# Altium integrated library Infineon Microcontroller 32-bit TriCore AURIX.IntLib: 81 symbols (part 7 of 8)
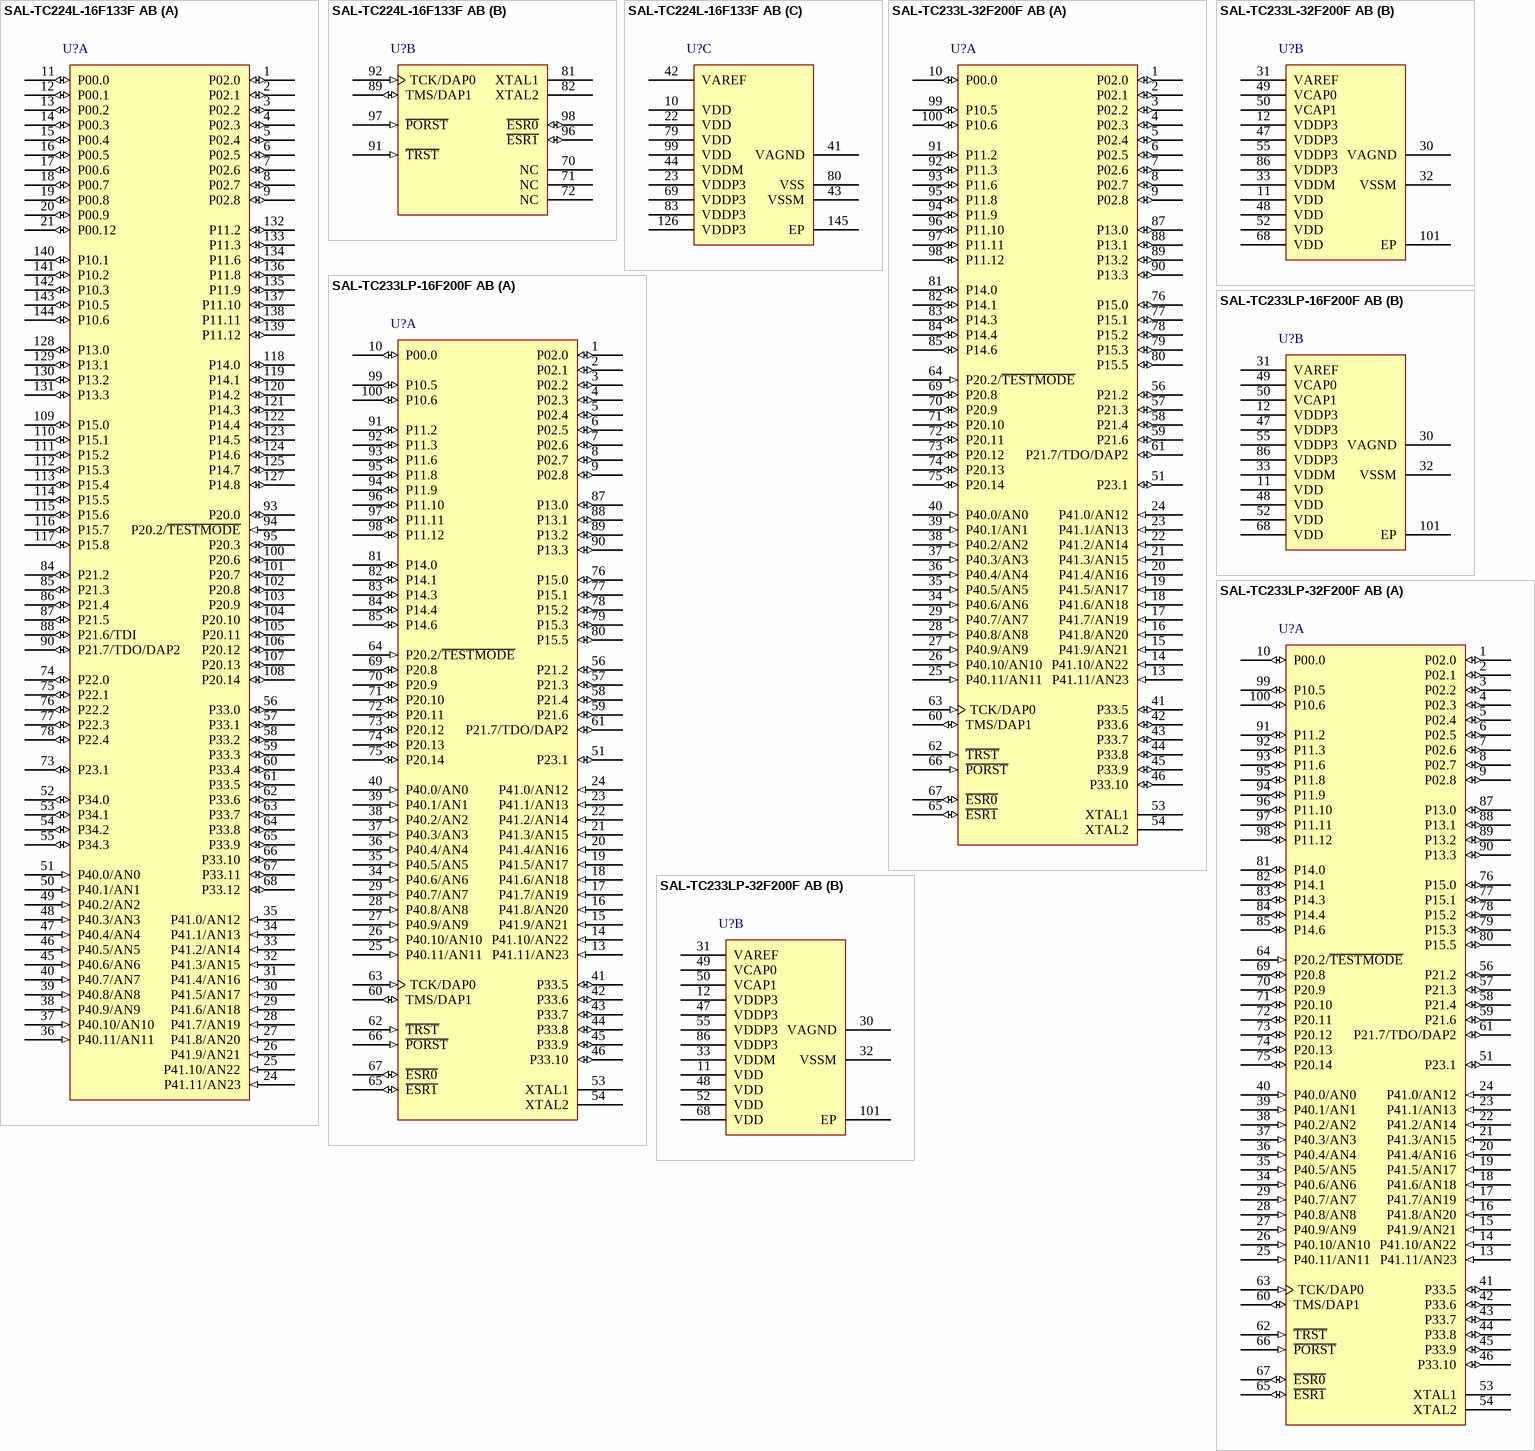
[diagram p41: symbols SAL-TC224L-16F133F AB to SAL-TC233LP-32F200F AB]

## SAL-TC233LP-16F200F AB
designator U?
32-bit multi-core TriCore AURIX microcontroller with 96 KB SRAM, 1 MB Flash, 200 MHz Frequency, -40 to 150 degC, PG-TQFP-100; Manufacturer: Infineon; ADC Chan.: 24; Core 0 TC16E DSPR (KB): 88; Core 0 TC16E PSPR (KB): 8; DFLASH (KB@cycles): 128@125k; ETH: No; Flash (MB): 1; FlexRay (#/ch.): 1 / 2; Freq. (MHz): 200; HSM: Yes; Total SRAM (KB): 96; Derivative: SAL-TC233LP-16F200F AB; DatasheetVersion: Rev. 1.1; PackageReference: PG-TQFP-100-23; PackageDescription: 100-Pin Plastic (Green) Low Profile Quad Flat Package, 12 x 12 mm Body, 0.4 mm Pitch; Supplier Part Reference: TC233LP16F200FABKXUMA1; Mounting Technology: Surface Mount; PartNumber: SAL-TC233LP-16F200F AB; ComponentLink1Description: Manufacturer URL; ComponentLink1URL: http://www.infineon.com/
footprint INF-PG-TQFP-100-23-5700X5700TP_V (QFP, 100-Leads, Body 12x12mm, Pitch 0.4mm, Thermal Pad 5.7x5.7mm)
part A pins: 1 P02.0 (io), 2 P02.1 (io), 3 P02.2 (io), 4 P02.3 (io), 5 P02.4 (io), 6 P02.5 (io), 7 P02.6 (io), 8 P02.7 (io), 9 P02.8 (io), 10 P00.0 (io), 13 P41.11/AN23 (in), 14 P41.10/AN22 (in), 15 P41.9/AN21 (in), 16 P41.8/AN20 (in), 17 P41.7/AN19 (in), 18 P41.6/AN18 (in), 19 P41.5/AN17 (in), 20 P41.4/AN16 (in), 21 P41.3/AN15 (in), 22 P41.2/AN14 (in), 23 P41.1/AN13 (in), 24 P41.0/AN12 (in), 25 P40.11/AN11 (in), 26 P40.10/AN10 (in), 27 P40.9/AN9 (in), 28 P40.8/AN8 (in), 29 P40.7/AN7 (in), 34 P40.6/AN6 (in), 35 P40.5/AN5 (in), 36 P40.4/AN4 (in), 37 P40.3/AN3 (in), 38 P40.2/AN2 (in), 39 P40.1/AN1 (in), 40 P40.0/AN0 (in), 41 P33.5 (io), 42 P33.6 (io), 43 P33.7 (io), 44 P33.8 (io), 45 P33.9 (io), 46 P33.10 (io), 51 P23.1 (io), 53 XTAL1, 54 XTAL2, 56 P21.2 (io), 57 P21.3 (io), 58 P21.4 (io), 59 P21.6 (io), 60 TMS/DAP1 (io), 61 P21.7/TDO/DAP2 (io), 62 ~{TRST} (in), 63 TCK/DAP0 (in), 64 P20.2/~{TESTMODE} (in), 65 ~{ESR1} (io), 66 ~{PORST} (in), 67 ~{ESR0} (io), 69 P20.8 (io), 70 P20.9 (io), 71 P20.10 (io), 72 P20.11 (io), 73 P20.12 (io), 74 P20.13 (io), 75 P20.14 (io), 76 P15.0 (io), 77 P15.1 (io), 78 P15.2 (io), 79 P15.3 (io), 80 P15.5 (io), 81 P14.0 (io), 82 P14.1 (io), 83 P14.3 (io), 84 P14.4 (io), 85 P14.6 (io), 87 P13.0 (io), 88 P13.1 (io), 89 P13.2 (io), 90 P13.3 (io), 91 P11.2 (io), 92 P11.3 (io), 93 P11.6 (io), 94 P11.9 (io), 95 P11.8 (io), 96 P11.10 (io), 97 P11.11 (io), 98 P11.12 (io), 99 P10.5 (io), 100 P10.6 (io)
part B pins: 11 VDD (power), 12 VDDP3 (power), 30 VAGND (power), 31 VAREF (power), 32 VSSM (power), 33 VDDM (power), 47 VDDP3 (power), 48 VDD (power), 49 VCAP0 (power), 50 VCAP1 (power), 52 VDD (power), 55 VDDP3 (power), 68 VDD (power), 86 VDDP3 (power), 101 EP (power)

## SAL-TC233LP-32F200F AB
designator U?
32-bit multi-core TriCore AURIX microcontroller with 192 KB SRAM, 2 MB Flash, 200 MHz Frequency, -40 to 150 degC, PG-TQFP-100; Manufacturer: Infineon; ADC Chan.: 24; Core 0 TC16E DSPR (KB): 184; Core 0 TC16E PSPR (KB): 8; DFLASH (KB@cycles): 128@125k; ETH: No; Flash (MB): 2; FlexRay (#/ch.): 1 / 2; Freq. (MHz): 200; HSM: Yes; Total SRAM (KB): 192; Derivative: SAL-TC233LP-32F200F AB; DatasheetVersion: Rev. 1.1; PackageReference: PG-TQFP-100-23; PackageDescription: 100-Pin Plastic (Green) Low Profile Quad Flat Package, 12 x 12 mm Body, 0.4 mm Pitch; Supplier 1: Mouser; Supplier Part Number 1: 726-TC233LP32F200FAB; Supplier Part Reference: TC233LP32F200FABKXUMA1; Mounting Technology: Surface Mount; PartNumber: SAL-TC233LP-32F200F AB; ComponentLink1Description: Manufacturer URL; ComponentLink1URL: http://www.infineon.com/
footprint INF-PG-TQFP-100-23-5700X5700TP_V (QFP, 100-Leads, Body 12x12mm, Pitch 0.4mm, Thermal Pad 5.7x5.7mm)
part A pins: 1 P02.0 (io), 2 P02.1 (io), 3 P02.2 (io), 4 P02.3 (io), 5 P02.4 (io), 6 P02.5 (io), 7 P02.6 (io), 8 P02.7 (io), 9 P02.8 (io), 10 P00.0 (io), 13 P41.11/AN23 (in), 14 P41.10/AN22 (in), 15 P41.9/AN21 (in), 16 P41.8/AN20 (in), 17 P41.7/AN19 (in), 18 P41.6/AN18 (in), 19 P41.5/AN17 (in), 20 P41.4/AN16 (in), 21 P41.3/AN15 (in), 22 P41.2/AN14 (in), 23 P41.1/AN13 (in), 24 P41.0/AN12 (in), 25 P40.11/AN11 (in), 26 P40.10/AN10 (in), 27 P40.9/AN9 (in), 28 P40.8/AN8 (in), 29 P40.7/AN7 (in), 34 P40.6/AN6 (in), 35 P40.5/AN5 (in), 36 P40.4/AN4 (in), 37 P40.3/AN3 (in), 38 P40.2/AN2 (in), 39 P40.1/AN1 (in), 40 P40.0/AN0 (in), 41 P33.5 (io), 42 P33.6 (io), 43 P33.7 (io), 44 P33.8 (io), 45 P33.9 (io), 46 P33.10 (io), 51 P23.1 (io), 53 XTAL1, 54 XTAL2, 56 P21.2 (io), 57 P21.3 (io), 58 P21.4 (io), 59 P21.6 (io), 60 TMS/DAP1 (io), 61 P21.7/TDO/DAP2 (io), 62 ~{TRST} (in), 63 TCK/DAP0 (in), 64 P20.2/~{TESTMODE} (in), 65 ~{ESR1} (io), 66 ~{PORST} (in), 67 ~{ESR0} (io), 69 P20.8 (io), 70 P20.9 (io), 71 P20.10 (io), 72 P20.11 (io), 73 P20.12 (io), 74 P20.13 (io), 75 P20.14 (io), 76 P15.0 (io), 77 P15.1 (io), 78 P15.2 (io), 79 P15.3 (io), 80 P15.5 (io), 81 P14.0 (io), 82 P14.1 (io), 83 P14.3 (io), 84 P14.4 (io), 85 P14.6 (io), 87 P13.0 (io), 88 P13.1 (io), 89 P13.2 (io), 90 P13.3 (io), 91 P11.2 (io), 92 P11.3 (io), 93 P11.6 (io), 94 P11.9 (io), 95 P11.8 (io), 96 P11.10 (io), 97 P11.11 (io), 98 P11.12 (io), 99 P10.5 (io), 100 P10.6 (io)
part B pins: 11 VDD (power), 12 VDDP3 (power), 30 VAGND (power), 31 VAREF (power), 32 VSSM (power), 33 VDDM (power), 47 VDDP3 (power), 48 VDD (power), 49 VCAP0 (power), 50 VCAP1 (power), 52 VDD (power), 55 VDDP3 (power), 68 VDD (power), 86 VDDP3 (power), 101 EP (power)

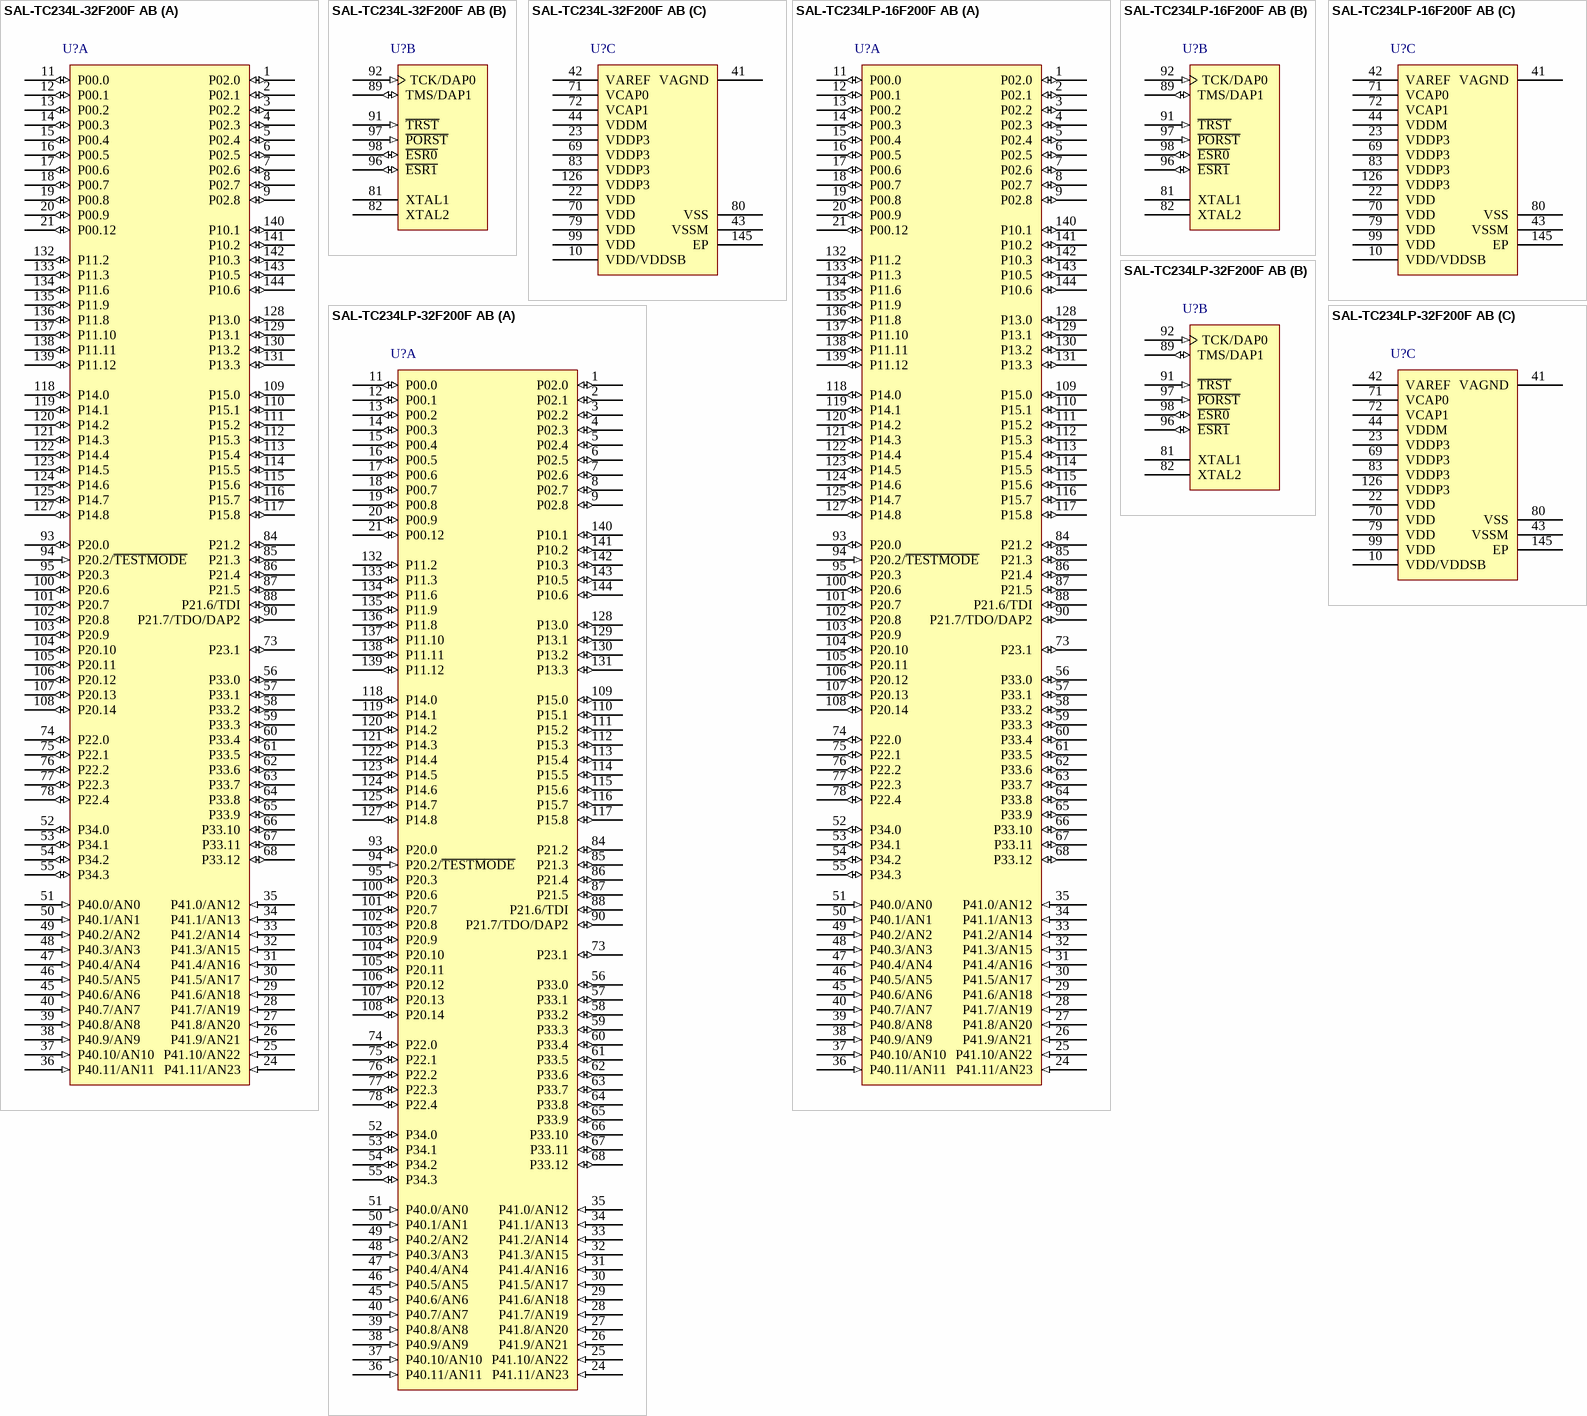
[diagram p28: symbols SAL-TC234L-32F200F AB to SAL-TC234LP-32F200F AB]

## SAL-TC234L-32F200F AB
designator U?
32-bit multi-core TriCore AURIX microcontroller with 192 KB SRAM, 2 MB Flash, 200 MHz Frequency, -40 to 150 degC, PG-TQFP-144; Manufacturer: Infineon; ADC Chan.: 24; Core 0 TC16E DSPR (KB): 184; Core 0 TC16E PSPR (KB): 8; DFLASH (KB@cycles): 128@125k; ETH: No; Flash (MB): 2; FlexRay (#/ch.): 1 / 2; Freq. (MHz): 200; Total SRAM (KB): 192; Derivative: SAL-TC234L-32F200F AB; DatasheetVersion: Rev. 1.1; PackageReference: PG-TQFP-144-27; PackageDescription: 144-Pin Plastic (Green) Low Profile Quad Flat Package, 16 x 16 mm Body, 0.4 mm Pitch; Supplier 1: Mouser; Supplier Part Number 1: 726-TC234L32F200FABK; HSM: No; Supplier Part Reference: TC234L32F200FABKXUMA1; Mounting Technology: Surface Mount; PartNumber: SAL-TC234L-32F200F AB; ComponentLink1Description: Manufacturer URL; ComponentLink1URL: http://www.infineon.com/
footprint INF-PG-TQFP-144-27-5700X5700TP_V (QFP, 144-Leads, Body 16x16mm, Pitch 0.4mm, Thermal Pad 5.7x5.7mm)
part A pins: 1 P02.0 (io), 2 P02.1 (io), 3 P02.2 (io), 4 P02.3 (io), 5 P02.4 (io), 6 P02.5 (io), 7 P02.6 (io), 8 P02.7 (io), 9 P02.8 (io), 11 P00.0 (io), 12 P00.1 (io), 13 P00.2 (io), 14 P00.3 (io), 15 P00.4 (io), 16 P00.5 (io), 17 P00.6 (io), 18 P00.7 (io), 19 P00.8 (io), 20 P00.9 (io), 21 P00.12 (io), 24 P41.11/AN23 (in), 25 P41.10/AN22 (in), 26 P41.9/AN21 (in), 27 P41.8/AN20 (in), 28 P41.7/AN19 (in), 29 P41.6/AN18 (in), 30 P41.5/AN17 (in), 31 P41.4/AN16 (in), 32 P41.3/AN15 (in), 33 P41.2/AN14 (in), 34 P41.1/AN13 (in), 35 P41.0/AN12 (in), 36 P40.11/AN11 (in), 37 P40.10/AN10 (in), 38 P40.9/AN9 (in), 39 P40.8/AN8 (in), 40 P40.7/AN7 (in), 45 P40.6/AN6 (in), 46 P40.5/AN5 (in), 47 P40.4/AN4 (in), 48 P40.3/AN3 (in), 49 P40.2/AN2 (in), 50 P40.1/AN1 (in), 51 P40.0/AN0 (in), 52 P34.0 (io), 53 P34.1 (io), 54 P34.2 (io), 55 P34.3 (io), 56 P33.0 (io), 57 P33.1 (io), 58 P33.2 (io), 59 P33.3 (io), 60 P33.4 (io), 61 P33.5 (io), 62 P33.6 (io), 63 P33.7 (io), 64 P33.8 (io), 65 P33.9 (io), 66 P33.10 (io), 67 P33.11 (io), 68 P33.12 (io), 73 P23.1 (io), 74 P22.0 (io), 75 P22.1 (io), 76 P22.2 (io), 77 P22.3 (io), 78 P22.4 (io), 84 P21.2 (io), 85 P21.3 (io), 86 P21.4 (io), 87 P21.5 (io), 88 P21.6/TDI (io), 90 P21.7/TDO/DAP2 (io), 93 P20.0 (io), 94 P20.2/~{TESTMODE} (in), 95 P20.3 (io), 100 P20.6 (io), 101 P20.7 (io), 102 P20.8 (io), 103 P20.9 (io), 104 P20.10 (io), 105 P20.11 (io), 106 P20.12 (io), 107 P20.13 (io), 108 P20.14 (io), 109 P15.0 (io), 110 P15.1 (io), 111 P15.2 (io), 112 P15.3 (io), 113 P15.4 (io), 114 P15.5 (io), 115 P15.6 (io), 116 P15.7 (io), 117 P15.8 (io), 118 P14.0 (io), 119 P14.1 (io), 120 P14.2 (io), 121 P14.3 (io), 122 P14.4 (io), 123 P14.5 (io), 124 P14.6 (io), 125 P14.7 (io), 127 P14.8 (io), 128 P13.0 (io), 129 P13.1 (io), 130 P13.2 (io), 131 P13.3 (io), 132 P11.2 (io), 133 P11.3 (io), 134 P11.6 (io), 135 P11.9 (io), 136 P11.8 (io), 137 P11.10 (io), 138 P11.11 (io), 139 P11.12 (io), 140 P10.1 (io), 141 P10.2 (io), 142 P10.3 (io), 143 P10.5 (io), 144 P10.6 (io)
part B pins: 81 XTAL1, 82 XTAL2, 89 TMS/DAP1 (io), 91 ~{TRST} (in), 92 TCK/DAP0 (in), 96 ~{ESR1} (io), 97 ~{PORST} (in), 98 ~{ESR0} (io)
part C pins: 10 VDD/VDDSB (power), 22 VDD (power), 23 VDDP3 (power), 41 VAGND (power), 42 VAREF (power), 43 VSSM (power), 44 VDDM (power), 69 VDDP3 (power), 70 VDD (power), 71 VCAP0 (power), 72 VCAP1 (power), 79 VDD (power), 80 VSS (power), 83 VDDP3 (power), 99 VDD (power), 126 VDDP3 (power), 145 EP (power)

## SAL-TC234LP-16F200F AB
designator U?
32-bit multi-core TriCore AURIX microcontroller with 96 KB SRAM, 1 MB Flash, 200 MHz Frequency, -40 to 150 degC, PG-TQFP-144; Manufacturer: Infineon; ADC Chan.: 24; Core 0 TC16E DSPR (KB): 88; Core 0 TC16E PSPR (KB): 8; DFLASH (KB@cycles): 128@125k; ETH: No; Flash (MB): 1; FlexRay (#/ch.): 1 / 2; Freq. (MHz): 200; HSM: Yes; Total SRAM (KB): 96; Derivative: SAL-TC234LP-16F200F AB; DatasheetVersion: Rev. 1.1; PackageReference: PG-TQFP-144-27; PackageDescription: 144-Pin Plastic (Green) Low Profile Quad Flat Package, 16 x 16 mm Body, 0.4 mm Pitch; Supplier Part Reference: TC234LP16F200FABKXUMA1; Mounting Technology: Surface Mount; PartNumber: SAL-TC234LP-16F200F AB; ComponentLink1Description: Manufacturer URL; ComponentLink1URL: http://www.infineon.com/
footprint INF-PG-TQFP-144-27-5700X5700TP_V (QFP, 144-Leads, Body 16x16mm, Pitch 0.4mm, Thermal Pad 5.7x5.7mm)
part A pins: 1 P02.0 (io), 2 P02.1 (io), 3 P02.2 (io), 4 P02.3 (io), 5 P02.4 (io), 6 P02.5 (io), 7 P02.6 (io), 8 P02.7 (io), 9 P02.8 (io), 11 P00.0 (io), 12 P00.1 (io), 13 P00.2 (io), 14 P00.3 (io), 15 P00.4 (io), 16 P00.5 (io), 17 P00.6 (io), 18 P00.7 (io), 19 P00.8 (io), 20 P00.9 (io), 21 P00.12 (io), 24 P41.11/AN23 (in), 25 P41.10/AN22 (in), 26 P41.9/AN21 (in), 27 P41.8/AN20 (in), 28 P41.7/AN19 (in), 29 P41.6/AN18 (in), 30 P41.5/AN17 (in), 31 P41.4/AN16 (in), 32 P41.3/AN15 (in), 33 P41.2/AN14 (in), 34 P41.1/AN13 (in), 35 P41.0/AN12 (in), 36 P40.11/AN11 (in), 37 P40.10/AN10 (in), 38 P40.9/AN9 (in), 39 P40.8/AN8 (in), 40 P40.7/AN7 (in), 45 P40.6/AN6 (in), 46 P40.5/AN5 (in), 47 P40.4/AN4 (in), 48 P40.3/AN3 (in), 49 P40.2/AN2 (in), 50 P40.1/AN1 (in), 51 P40.0/AN0 (in), 52 P34.0 (io), 53 P34.1 (io), 54 P34.2 (io), 55 P34.3 (io), 56 P33.0 (io), 57 P33.1 (io), 58 P33.2 (io), 59 P33.3 (io), 60 P33.4 (io), 61 P33.5 (io), 62 P33.6 (io), 63 P33.7 (io), 64 P33.8 (io), 65 P33.9 (io), 66 P33.10 (io), 67 P33.11 (io), 68 P33.12 (io), 73 P23.1 (io), 74 P22.0 (io), 75 P22.1 (io), 76 P22.2 (io), 77 P22.3 (io), 78 P22.4 (io), 84 P21.2 (io), 85 P21.3 (io), 86 P21.4 (io), 87 P21.5 (io), 88 P21.6/TDI (io), 90 P21.7/TDO/DAP2 (io), 93 P20.0 (io), 94 P20.2/~{TESTMODE} (in), 95 P20.3 (io), 100 P20.6 (io), 101 P20.7 (io), 102 P20.8 (io), 103 P20.9 (io), 104 P20.10 (io), 105 P20.11 (io), 106 P20.12 (io), 107 P20.13 (io), 108 P20.14 (io), 109 P15.0 (io), 110 P15.1 (io), 111 P15.2 (io), 112 P15.3 (io), 113 P15.4 (io), 114 P15.5 (io), 115 P15.6 (io), 116 P15.7 (io), 117 P15.8 (io), 118 P14.0 (io), 119 P14.1 (io), 120 P14.2 (io), 121 P14.3 (io), 122 P14.4 (io), 123 P14.5 (io), 124 P14.6 (io), 125 P14.7 (io), 127 P14.8 (io), 128 P13.0 (io), 129 P13.1 (io), 130 P13.2 (io), 131 P13.3 (io), 132 P11.2 (io), 133 P11.3 (io), 134 P11.6 (io), 135 P11.9 (io), 136 P11.8 (io), 137 P11.10 (io), 138 P11.11 (io), 139 P11.12 (io), 140 P10.1 (io), 141 P10.2 (io), 142 P10.3 (io), 143 P10.5 (io), 144 P10.6 (io)
part B pins: 81 XTAL1, 82 XTAL2, 89 TMS/DAP1 (io), 91 ~{TRST} (in), 92 TCK/DAP0 (in), 96 ~{ESR1} (io), 97 ~{PORST} (in), 98 ~{ESR0} (io)
part C pins: 10 VDD/VDDSB (power), 22 VDD (power), 23 VDDP3 (power), 41 VAGND (power), 42 VAREF (power), 43 VSSM (power), 44 VDDM (power), 69 VDDP3 (power), 70 VDD (power), 71 VCAP0 (power), 72 VCAP1 (power), 79 VDD (power), 80 VSS (power), 83 VDDP3 (power), 99 VDD (power), 126 VDDP3 (power), 145 EP (power)

## SAL-TC234LP-32F200F AB
designator U?
32-bit multi-core TriCore AURIX microcontroller with 192 KB SRAM, 2 MB Flash, 200 MHz Frequency, -40 to 150 degC, PG-TQFP-144; Manufacturer: Infineon; ADC Chan.: 24; Core 0 TC16E DSPR (KB): 184; Core 0 TC16E PSPR (KB): 8; DFLASH (KB@cycles): 128@125k; ETH: No; Flash (MB): 2; FlexRay (#/ch.): 1 / 2; Freq. (MHz): 200; HSM: Yes; Total SRAM (KB): 192; Derivative: SAL-TC234LP-32F200F AB; DatasheetVersion: Rev. 1.1; PackageReference: PG-TQFP-144-27; PackageDescription: 144-Pin Plastic (Green) Low Profile Quad Flat Package, 16 x 16 mm Body, 0.4 mm Pitch; Supplier 1: Mouser; Supplier Part Number 1: 726-TC234LP32F200FAB; Supplier Part Reference: TC234LP32F200FABKXUMA1; Mounting Technology: Surface Mount; PartNumber: SAL-TC234LP-32F200F AB; ComponentLink1Description: Manufacturer URL; ComponentLink1URL: http://www.infineon.com/
footprint INF-PG-TQFP-144-27-5700X5700TP_V (QFP, 144-Leads, Body 16x16mm, Pitch 0.4mm, Thermal Pad 5.7x5.7mm)
part A pins: 1 P02.0 (io), 2 P02.1 (io), 3 P02.2 (io), 4 P02.3 (io), 5 P02.4 (io), 6 P02.5 (io), 7 P02.6 (io), 8 P02.7 (io), 9 P02.8 (io), 11 P00.0 (io), 12 P00.1 (io), 13 P00.2 (io), 14 P00.3 (io), 15 P00.4 (io), 16 P00.5 (io), 17 P00.6 (io), 18 P00.7 (io), 19 P00.8 (io), 20 P00.9 (io), 21 P00.12 (io), 24 P41.11/AN23 (in), 25 P41.10/AN22 (in), 26 P41.9/AN21 (in), 27 P41.8/AN20 (in), 28 P41.7/AN19 (in), 29 P41.6/AN18 (in), 30 P41.5/AN17 (in), 31 P41.4/AN16 (in), 32 P41.3/AN15 (in), 33 P41.2/AN14 (in), 34 P41.1/AN13 (in), 35 P41.0/AN12 (in), 36 P40.11/AN11 (in), 37 P40.10/AN10 (in), 38 P40.9/AN9 (in), 39 P40.8/AN8 (in), 40 P40.7/AN7 (in), 45 P40.6/AN6 (in), 46 P40.5/AN5 (in), 47 P40.4/AN4 (in), 48 P40.3/AN3 (in), 49 P40.2/AN2 (in), 50 P40.1/AN1 (in), 51 P40.0/AN0 (in), 52 P34.0 (io), 53 P34.1 (io), 54 P34.2 (io), 55 P34.3 (io), 56 P33.0 (io), 57 P33.1 (io), 58 P33.2 (io), 59 P33.3 (io), 60 P33.4 (io), 61 P33.5 (io), 62 P33.6 (io), 63 P33.7 (io), 64 P33.8 (io), 65 P33.9 (io), 66 P33.10 (io), 67 P33.11 (io), 68 P33.12 (io), 73 P23.1 (io), 74 P22.0 (io), 75 P22.1 (io), 76 P22.2 (io), 77 P22.3 (io), 78 P22.4 (io), 84 P21.2 (io), 85 P21.3 (io), 86 P21.4 (io), 87 P21.5 (io), 88 P21.6/TDI (io), 90 P21.7/TDO/DAP2 (io), 93 P20.0 (io), 94 P20.2/~{TESTMODE} (in), 95 P20.3 (io), 100 P20.6 (io), 101 P20.7 (io), 102 P20.8 (io), 103 P20.9 (io), 104 P20.10 (io), 105 P20.11 (io), 106 P20.12 (io), 107 P20.13 (io), 108 P20.14 (io), 109 P15.0 (io), 110 P15.1 (io), 111 P15.2 (io), 112 P15.3 (io), 113 P15.4 (io), 114 P15.5 (io), 115 P15.6 (io), 116 P15.7 (io), 117 P15.8 (io), 118 P14.0 (io), 119 P14.1 (io), 120 P14.2 (io), 121 P14.3 (io), 122 P14.4 (io), 123 P14.5 (io), 124 P14.6 (io), 125 P14.7 (io), 127 P14.8 (io), 128 P13.0 (io), 129 P13.1 (io), 130 P13.2 (io), 131 P13.3 (io), 132 P11.2 (io), 133 P11.3 (io), 134 P11.6 (io), 135 P11.9 (io), 136 P11.8 (io), 137 P11.10 (io), 138 P11.11 (io), 139 P11.12 (io), 140 P10.1 (io), 141 P10.2 (io), 142 P10.3 (io), 143 P10.5 (io), 144 P10.6 (io)
part B pins: 81 XTAL1, 82 XTAL2, 89 TMS/DAP1 (io), 91 ~{TRST} (in), 92 TCK/DAP0 (in), 96 ~{ESR1} (io), 97 ~{PORST} (in), 98 ~{ESR0} (io)
part C pins: 10 VDD/VDDSB (power), 22 VDD (power), 23 VDDP3 (power), 41 VAGND (power), 42 VAREF (power), 43 VSSM (power), 44 VDDM (power), 69 VDDP3 (power), 70 VDD (power), 71 VCAP0 (power), 72 VCAP1 (power), 79 VDD (power), 80 VSS (power), 83 VDDP3 (power), 99 VDD (power), 126 VDDP3 (power), 145 EP (power)

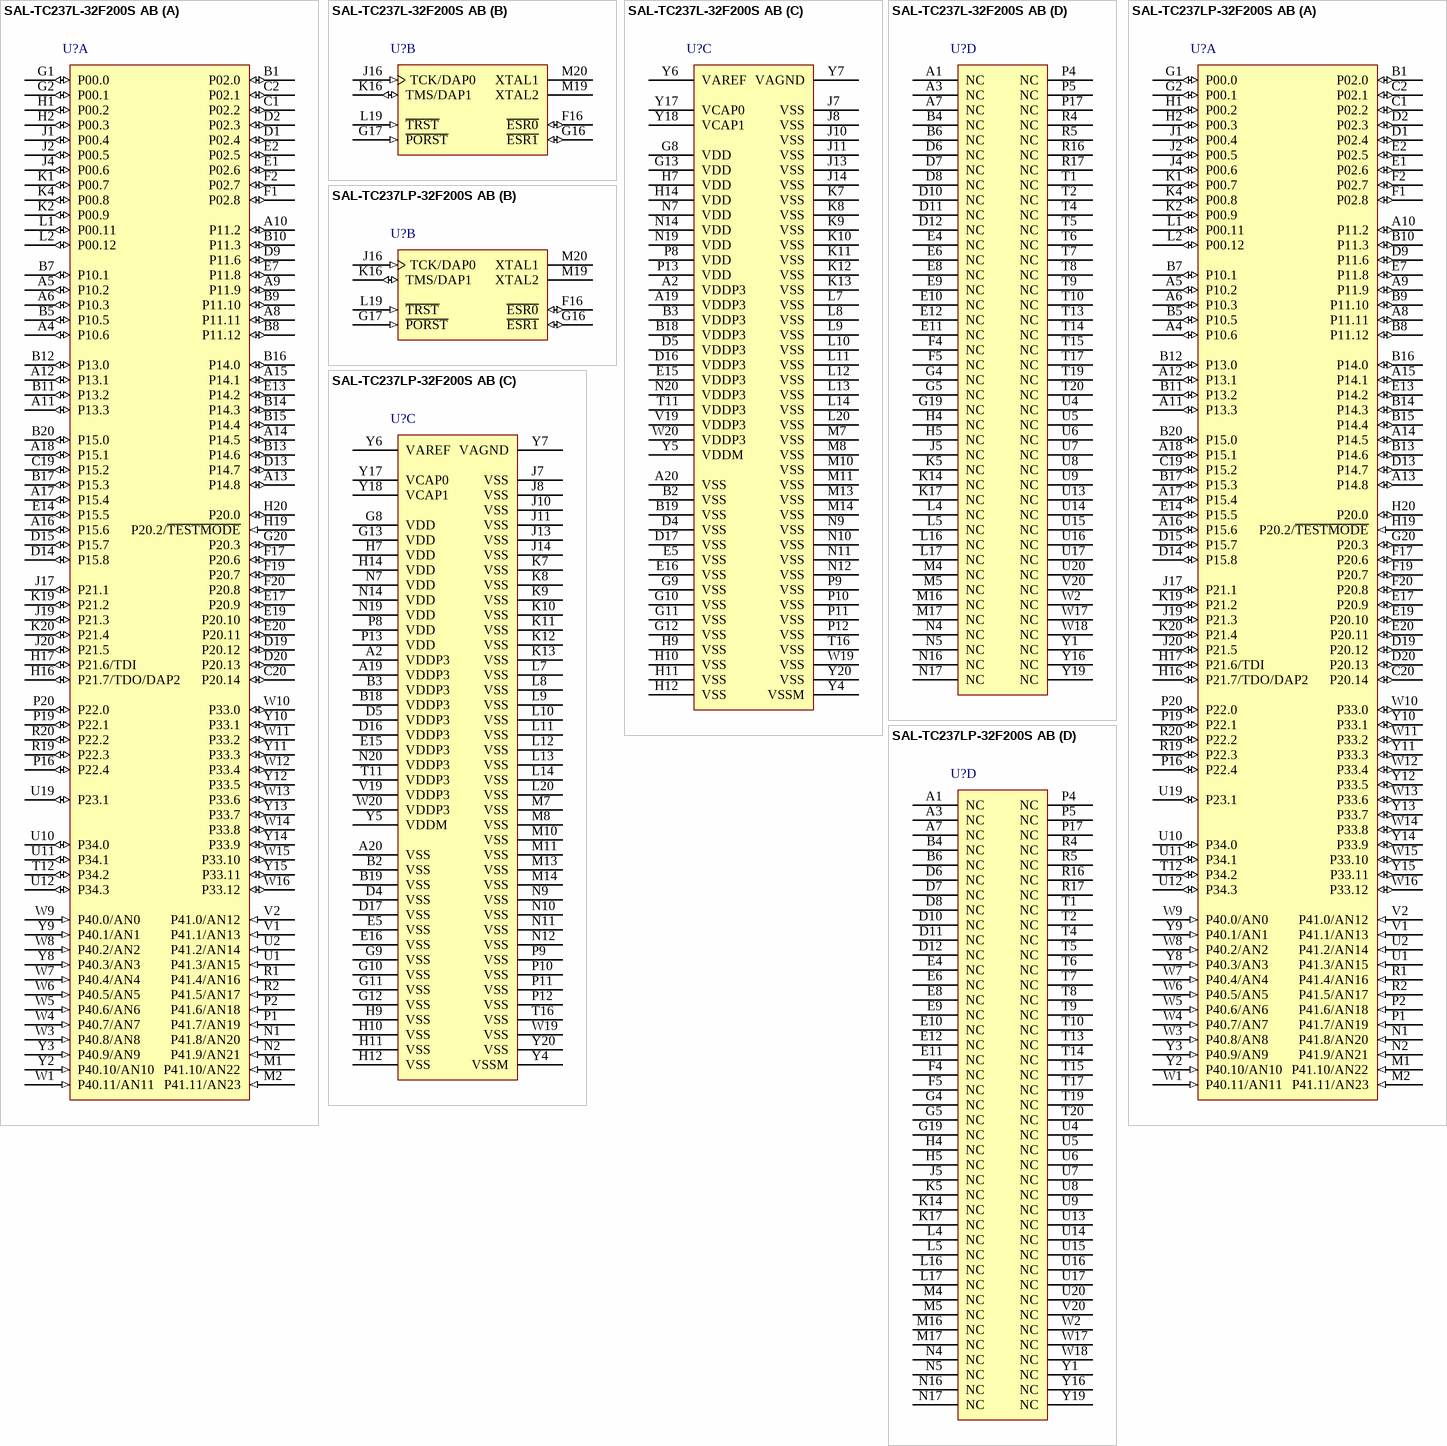
[diagram p29: symbols SAL-TC237L-32F200S AB to SAL-TC237LP-32F200S AB]

## SAL-TC237L-32F200S AB
designator U?
32-bit multi-core TriCore AURIX microcontroller with 192 KB SRAM, 2 MB Flash, 200 MHz Frequency, -40 to 150 degC, PG-LFBGA-292; Manufacturer: Infineon; ADC Chan.: 24; Core 0 TC16E DSPR (KB): 184; Core 0 TC16E PSPR (KB): 8; DFLASH (KB@cycles): 128@125k; ETH: No; Flash (MB): 2; FlexRay (#/ch.): 1 / 2; Freq. (MHz): 200; Total SRAM (KB): 192; Derivative: SAL-TC237L-32F200S AB; DatasheetVersion: Rev. 1.1; PackageReference: PG-LFBGA-292-6; PackageDescription: 292-Pin Plastic (Green) Low Profile Fine Pitch Ball Grid Array Package, 17 x 17 mm Body, 0.8 mm Pitch; Supplier 1: Mouser; Supplier Part Number 1: 726-TC237L32F200SABK; HSM: No; Supplier Part Reference: TC237L32F200SABKXUMA1; Mounting Technology: Surface Mount; PartNumber: SAL-TC237L-32F200S AB; ComponentLink1Description: Manufacturer URL; ComponentLink1URL: http://www.infineon.com/
footprint INF-PG-LFBGA-292-6 (BGA, 292-Balls, Body 17x17mm, Pitch 0.8mm)
part A pins: A4 P10.6 (io), A5 P10.2 (io), A6 P10.3 (io), A8 P11.11 (io), A9 P11.9 (io), A10 P11.2 (io), A11 P13.3 (io), A12 P13.1 (io), A13 P14.8 (io), A14 P14.5 (io), A15 P14.1 (io), A16 P15.6 (io), A17 P15.4 (io), A18 P15.1 (io), B1 P02.0 (io), B5 P10.5 (io), B7 P10.1 (io), B8 P11.12 (io), B9 P11.10 (io), B10 P11.3 (io), B11 P13.2 (io), B12 P13.0 (io), B13 P14.6 (io), B14 P14.3 (io), B15 P14.4 (io), B16 P14.0 (io), B17 P15.3 (io), B20 P15.0 (io), C1 P02.2 (io), C2 P02.1 (io), C19 P15.2 (io), C20 P20.14 (io), D1 P02.4 (io), D2 P02.3 (io), D9 P11.6 (io), D13 P14.7 (io), D14 P15.8 (io), D15 P15.7 (io), D19 P20.12 (io), D20 P20.13 (io), E1 P02.6 (io), E2 P02.5 (io), E7 P11.8 (io), E13 P14.2 (io), E14 P15.5 (io), E17 P20.9 (io), E19 P20.10 (io), E20 P20.11 (io), F1 P02.8 (io), F2 P02.7 (io), F17 P20.6 (io), F19 P20.7 (io), F20 P20.8 (io), G1 P00.0 (io), G2 P00.1 (io), G20 P20.3 (io), H1 P00.2 (io), H2 P00.3 (io), H16 P21.7/TDO/DAP2 (io), H17 P21.6/TDI (io), H19 P20.2/~{TESTMODE} (in), H20 P20.0 (io), J1 P00.4 (io), J2 P00.5 (io), J4 P00.6 (io), J17 P21.1 (io), J19 P21.3 (io), J20 P21.5 (io), K1 P00.7 (io), K2 P00.9 (io), K4 P00.8 (io), K19 P21.2 (io), K20 P21.4 (io), L1 P00.11 (io), L2 P00.12 (io), M1 P41.10/AN22 (in), M2 P41.11/AN23 (in), N1 P41.8/AN20 (in), N2 P41.9/AN21 (in), P1 P41.7/AN19 (in), P2 P41.6/AN18 (in), P16 P22.4 (io), P19 P22.1 (io), P20 P22.0 (io), R1 P41.4/AN16 (in), R2 P41.5/AN17 (in), R19 P22.3 (io), R20 P22.2 (io), T12 P34.2 (io), U1 P41.3/AN15 (in), U2 P41.2/AN14 (in), U10 P34.0 (io), U11 P34.1 (io), U12 P34.3 (io), U19 P23.1 (io), V1 P41.1/AN13 (in), V2 P41.0/AN12 (in), W1 P40.11/AN11 (in), W3 P40.8/AN8 (in), W4 P40.7/AN7 (in), W5 P40.6/AN6 (in), W6 P40.5/AN5 (in), W7 P40.4/AN4 (in), W8 P40.2/AN2 (in), W9 P40.0/AN0 (in), W10 P33.0 (io), W11 P33.2 (io), W12 P33.4 (io), W13 P33.6 (io), W14 P33.8 (io), W15 P33.10 (io), W16 P33.12 (io), Y2 P40.10/AN10 (in), Y3 P40.9/AN9 (in), Y8 P40.3/AN3 (in), Y9 P40.1/AN1 (in), Y10 P33.1 (io), Y11 P33.3 (io), Y12 P33.5 (io), Y13 P33.7 (io), Y14 P33.9 (io), Y15 P33.11 (io)
part B pins: F16 ~{ESR0} (io), G16 ~{ESR1} (io), G17 ~{PORST} (in), J16 TCK/DAP0 (in), K16 TMS/DAP1 (io), L19 ~{TRST} (in), M19 XTAL2, M20 XTAL1
part C pins: A2 VDDP3 (power), A19 VDDP3 (power), A20 VSS (power), B2 VSS (power), B3 VDDP3 (power), B18 VDDP3 (power), B19 VSS (power), D4 VSS (power), D5 VDDP3 (power), D16 VDDP3 (power), D17 VSS (power), E5 VSS (power), E15 VDDP3 (power), E16 VSS (power), G8 VDD (power), G9 VSS (power), G10 VSS (power), G11 VSS (power), G12 VSS (power), G13 VDD (power), H7 VDD (power), H9 VSS (power), H10 VSS (power), H11 VSS (power), H12 VSS (power), H14 VDD (power), J7 VSS (power), J8 VSS (power), J10 VSS (power), J11 VSS (power), J13 VSS (power), J14 VSS (power), K7 VSS (power), K8 VSS (power), K9 VSS (power), K10 VSS (power), K11 VSS (power), K12 VSS (power), K13 VSS (power), L7 VSS (power), L8 VSS (power), L9 VSS (power), L10 VSS (power), L11 VSS (power), L12 VSS (power), L13 VSS (power), L14 VSS (power), L20 VSS (power), M7 VSS (power), M8 VSS (power), M10 VSS (power), M11 VSS (power), M13 VSS (power), M14 VSS (power), N7 VDD (power), N9 VSS (power), N10 VSS (power), N11 VSS (power), N12 VSS (power), N14 VDD (power), N19 VDD (power), N20 VDDP3 (power), P8 VDD (power), P9 VSS (power), P10 VSS (power), P11 VSS (power), P12 VSS (power), P13 VDD (power), T11 VDDP3 (power), T16 VSS (power), V19 VDDP3 (power), W19 VSS (power), W20 VDDP3 (power), Y4 VSSM (power), Y5 VDDM (power), Y6 VAREF (power), Y7 VAGND (power), Y17 VCAP0 (power), Y18 VCAP1 (power), Y20 VSS (power)
part D pins: A1 NC, A3 NC, A7 NC, B4 NC, B6 NC, D6 NC, D7 NC, D8 NC, D10 NC, D11 NC, D12 NC, E4 NC, E6 NC, E8 NC, E9 NC, E10 NC, E11 NC, E12 NC, F4 NC, F5 NC, G4 NC, G5 NC, G19 NC, H4 NC, H5 NC, J5 NC, K5 NC, K14 NC, K17 NC, L4 NC, L5 NC, L16 NC, L17 NC, M4 NC, M5 NC, M16 NC, M17 NC, N4 NC, N5 NC, N16 NC, N17 NC, P4 NC, P5 NC, P17 NC, R4 NC, R5 NC, R16 NC, R17 NC, T1 NC, T2 NC, T4 NC, T5 NC, T6 NC, T7 NC, T8 NC, T9 NC, T10 NC, T13 NC, T14 NC, T15 NC, T17 NC, T19 NC, T20 NC, U4 NC, U5 NC, U6 NC, U7 NC, U8 NC, U9 NC, U13 NC, U14 NC, U15 NC, U16 NC, U17 NC, U20 NC, V20 NC, W2 NC, W17 NC, W18 NC, Y1 NC, Y16 NC, Y19 NC

## SAL-TC237LP-32F200S AB
designator U?
32-bit multi-core TriCore AURIX microcontroller with 192 KB SRAM, 2 MB Flash, 200 MHz Frequency, -40 to 150 degC, PG-LFBGA-292; Manufacturer: Infineon; ADC Chan.: 24; Core 0 TC16E DSPR (KB): 184; Core 0 TC16E PSPR (KB): 8; DFLASH (KB@cycles): 128@125k; ETH: No; Flash (MB): 2; FlexRay (#/ch.): 1 / 2; Freq. (MHz): 200; HSM: Yes; Total SRAM (KB): 192; Derivative: SAL-TC237LP-32F200S AB; DatasheetVersion: Rev. 1.1; PackageReference: PG-LFBGA-292-6; PackageDescription: 292-Pin Plastic (Green) Low Profile Fine Pitch Ball Grid Array Package, 17 x 17 mm Body, 0.8 mm Pitch; Supplier 1: Mouser; Supplier Part Number 1: 726-TC237LP32F200SAB; Supplier Part Reference: TC237LP32F200SABKXUMA1; Mounting Technology: Surface Mount; PartNumber: SAL-TC237LP-32F200S AB; ComponentLink1Description: Manufacturer URL; ComponentLink1URL: http://www.infineon.com/
footprint INF-PG-LFBGA-292-6 (BGA, 292-Balls, Body 17x17mm, Pitch 0.8mm)
part A pins: A4 P10.6 (io), A5 P10.2 (io), A6 P10.3 (io), A8 P11.11 (io), A9 P11.9 (io), A10 P11.2 (io), A11 P13.3 (io), A12 P13.1 (io), A13 P14.8 (io), A14 P14.5 (io), A15 P14.1 (io), A16 P15.6 (io), A17 P15.4 (io), A18 P15.1 (io), B1 P02.0 (io), B5 P10.5 (io), B7 P10.1 (io), B8 P11.12 (io), B9 P11.10 (io), B10 P11.3 (io), B11 P13.2 (io), B12 P13.0 (io), B13 P14.6 (io), B14 P14.3 (io), B15 P14.4 (io), B16 P14.0 (io), B17 P15.3 (io), B20 P15.0 (io), C1 P02.2 (io), C2 P02.1 (io), C19 P15.2 (io), C20 P20.14 (io), D1 P02.4 (io), D2 P02.3 (io), D9 P11.6 (io), D13 P14.7 (io), D14 P15.8 (io), D15 P15.7 (io), D19 P20.12 (io), D20 P20.13 (io), E1 P02.6 (io), E2 P02.5 (io), E7 P11.8 (io), E13 P14.2 (io), E14 P15.5 (io), E17 P20.9 (io), E19 P20.10 (io), E20 P20.11 (io), F1 P02.8 (io), F2 P02.7 (io), F17 P20.6 (io), F19 P20.7 (io), F20 P20.8 (io), G1 P00.0 (io), G2 P00.1 (io), G20 P20.3 (io), H1 P00.2 (io), H2 P00.3 (io), H16 P21.7/TDO/DAP2 (io), H17 P21.6/TDI (io), H19 P20.2/~{TESTMODE} (in), H20 P20.0 (io), J1 P00.4 (io), J2 P00.5 (io), J4 P00.6 (io), J17 P21.1 (io), J19 P21.3 (io), J20 P21.5 (io), K1 P00.7 (io), K2 P00.9 (io), K4 P00.8 (io), K19 P21.2 (io), K20 P21.4 (io), L1 P00.11 (io), L2 P00.12 (io), M1 P41.10/AN22 (in), M2 P41.11/AN23 (in), N1 P41.8/AN20 (in), N2 P41.9/AN21 (in), P1 P41.7/AN19 (in), P2 P41.6/AN18 (in), P16 P22.4 (io), P19 P22.1 (io), P20 P22.0 (io), R1 P41.4/AN16 (in), R2 P41.5/AN17 (in), R19 P22.3 (io), R20 P22.2 (io), T12 P34.2 (io), U1 P41.3/AN15 (in), U2 P41.2/AN14 (in), U10 P34.0 (io), U11 P34.1 (io), U12 P34.3 (io), U19 P23.1 (io), V1 P41.1/AN13 (in), V2 P41.0/AN12 (in), W1 P40.11/AN11 (in), W3 P40.8/AN8 (in), W4 P40.7/AN7 (in), W5 P40.6/AN6 (in), W6 P40.5/AN5 (in), W7 P40.4/AN4 (in), W8 P40.2/AN2 (in), W9 P40.0/AN0 (in), W10 P33.0 (io), W11 P33.2 (io), W12 P33.4 (io), W13 P33.6 (io), W14 P33.8 (io), W15 P33.10 (io), W16 P33.12 (io), Y2 P40.10/AN10 (in), Y3 P40.9/AN9 (in), Y8 P40.3/AN3 (in), Y9 P40.1/AN1 (in), Y10 P33.1 (io), Y11 P33.3 (io), Y12 P33.5 (io), Y13 P33.7 (io), Y14 P33.9 (io), Y15 P33.11 (io)
part B pins: F16 ~{ESR0} (io), G16 ~{ESR1} (io), G17 ~{PORST} (in), J16 TCK/DAP0 (in), K16 TMS/DAP1 (io), L19 ~{TRST} (in), M19 XTAL2, M20 XTAL1
part C pins: A2 VDDP3 (power), A19 VDDP3 (power), A20 VSS (power), B2 VSS (power), B3 VDDP3 (power), B18 VDDP3 (power), B19 VSS (power), D4 VSS (power), D5 VDDP3 (power), D16 VDDP3 (power), D17 VSS (power), E5 VSS (power), E15 VDDP3 (power), E16 VSS (power), G8 VDD (power), G9 VSS (power), G10 VSS (power), G11 VSS (power), G12 VSS (power), G13 VDD (power), H7 VDD (power), H9 VSS (power), H10 VSS (power), H11 VSS (power), H12 VSS (power), H14 VDD (power), J7 VSS (power), J8 VSS (power), J10 VSS (power), J11 VSS (power), J13 VSS (power), J14 VSS (power), K7 VSS (power), K8 VSS (power), K9 VSS (power), K10 VSS (power), K11 VSS (power), K12 VSS (power), K13 VSS (power), L7 VSS (power), L8 VSS (power), L9 VSS (power), L10 VSS (power), L11 VSS (power), L12 VSS (power), L13 VSS (power), L14 VSS (power), L20 VSS (power), M7 VSS (power), M8 VSS (power), M10 VSS (power), M11 VSS (power), M13 VSS (power), M14 VSS (power), N7 VDD (power), N9 VSS (power), N10 VSS (power), N11 VSS (power), N12 VSS (power), N14 VDD (power), N19 VDD (power), N20 VDDP3 (power), P8 VDD (power), P9 VSS (power), P10 VSS (power), P11 VSS (power), P12 VSS (power), P13 VDD (power), T11 VDDP3 (power), T16 VSS (power), V19 VDDP3 (power), W19 VSS (power), W20 VDDP3 (power), Y4 VSSM (power), Y5 VDDM (power), Y6 VAREF (power), Y7 VAGND (power), Y17 VCAP0 (power), Y18 VCAP1 (power), Y20 VSS (power)
part D pins: A1 NC, A3 NC, A7 NC, B4 NC, B6 NC, D6 NC, D7 NC, D8 NC, D10 NC, D11 NC, D12 NC, E4 NC, E6 NC, E8 NC, E9 NC, E10 NC, E11 NC, E12 NC, F4 NC, F5 NC, G4 NC, G5 NC, G19 NC, H4 NC, H5 NC, J5 NC, K5 NC, K14 NC, K17 NC, L4 NC, L5 NC, L16 NC, L17 NC, M4 NC, M5 NC, M16 NC, M17 NC, N4 NC, N5 NC, N16 NC, N17 NC, P4 NC, P5 NC, P17 NC, R4 NC, R5 NC, R16 NC, R17 NC, T1 NC, T2 NC, T4 NC, T5 NC, T6 NC, T7 NC, T8 NC, T9 NC, T10 NC, T13 NC, T14 NC, T15 NC, T17 NC, T19 NC, T20 NC, U4 NC, U5 NC, U6 NC, U7 NC, U8 NC, U9 NC, U13 NC, U14 NC, U15 NC, U16 NC, U17 NC, U20 NC, V20 NC, W2 NC, W17 NC, W18 NC, Y1 NC, Y16 NC, Y19 NC

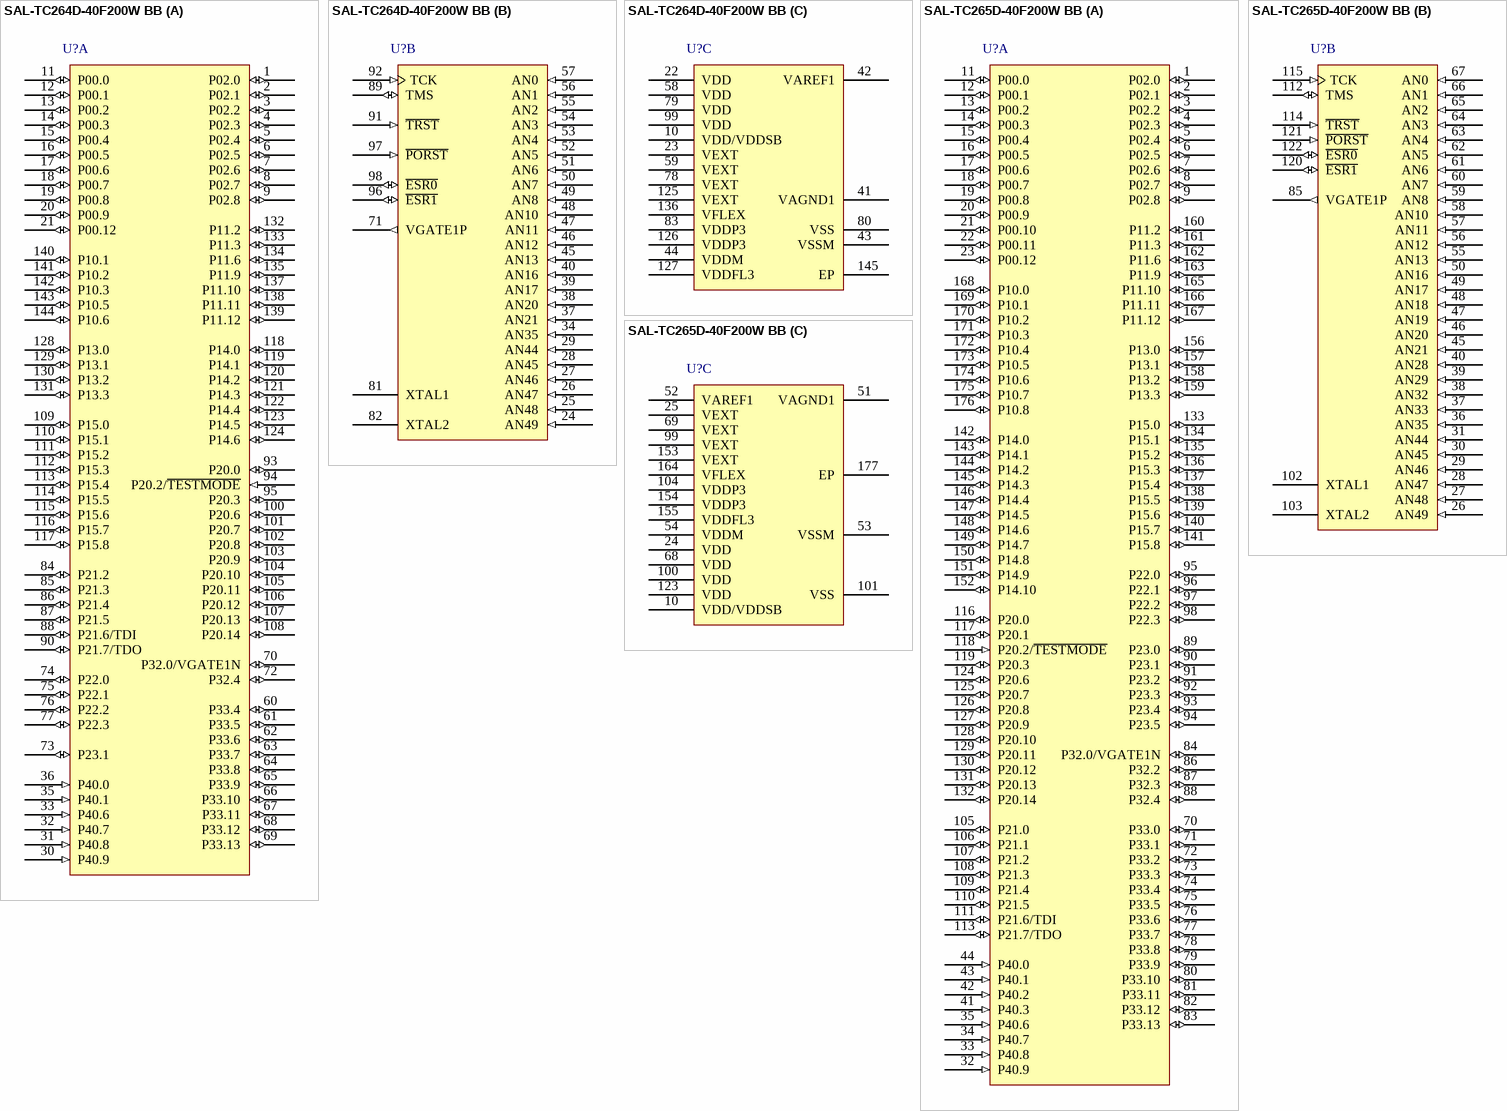
[diagram p30: symbols SAL-TC264D-40F200W BB to SAL-TC265D-40F200W BB]

## SAL-TC264D-40F200W BB
designator U?
32-bit multi-core TriCore AURIX microcontroller with 240 KB SRAM, 2.5 MB Flash, 200 MHz Frequency, -40 to 150 degC, PG-LQFP-144; Manufacturer: Infineon; ADC Chan.: 40; CAN FD: Yes; Core 0 TC16E DSPR (KB): 72; Core 0 TC16E PSPR (KB): 16; Core 1&2 TC16P DSPR (KB): 120; Core 1&2 TC16P PSPR (KB): 32; EEPROM (KB): 96 @125k; ETH: No; Flash (MB): 2.5; Freq. (MHz): 200; Total SRAM (KB): 240; Derivative: SAL-TC264D-40F200W BB; DatasheetVersion: Rev. 0.6; PackageReference: PG-LQFP-144-22; PackageDescription: 144-Pin Plastic (Green) Low Profile Quad Flat Package, 20 x 20 mm Body, 0.5 mm Pitch; Supplier 1: Mouser; Supplier Part Number 1: 726-TC264D40F200WBBK; Standby Ctrl: No; Supplier Part Reference: TC264D40F200WBBKXUMA1; Mounting Technology: Surface Mount; PartNumber: SAL-TC264D-40F200W BB; ComponentLink1Description: Manufacturer URL; ComponentLink1URL: http://www.infineon.com/
footprint INF-PG-LQFP-144-22-7500X7500TP_V (QFP, 144-Leads, Body 20x20mm, Pitch 0.5mm, Thermal Pad 7.5x7.5mm)
part A pins: 1 P02.0 (io), 2 P02.1 (io), 3 P02.2 (io), 4 P02.3 (io), 5 P02.4 (io), 6 P02.5 (io), 7 P02.6 (io), 8 P02.7 (io), 9 P02.8 (io), 11 P00.0 (io), 12 P00.1 (io), 13 P00.2 (io), 14 P00.3 (io), 15 P00.4 (io), 16 P00.5 (io), 17 P00.6 (io), 18 P00.7 (io), 19 P00.8 (io), 20 P00.9 (io), 21 P00.12 (io), 30 P40.9 (in), 31 P40.8 (in), 32 P40.7 (in), 33 P40.6 (in), 35 P40.1 (in), 36 P40.0 (in), 60 P33.4 (io), 61 P33.5 (io), 62 P33.6 (io), 63 P33.7 (io), 64 P33.8 (io), 65 P33.9 (io), 66 P33.10 (io), 67 P33.11 (io), 68 P33.12 (io), 69 P33.13 (io), 70 P32.0/VGATE1N (io), 72 P32.4 (io), 73 P23.1 (io), 74 P22.0 (io), 75 P22.1 (io), 76 P22.2 (io), 77 P22.3 (io), 84 P21.2 (io), 85 P21.3 (io), 86 P21.4 (io), 87 P21.5 (io), 88 P21.6/TDI (io), 90 P21.7/TDO (io), 93 P20.0 (io), 94 P20.2/~{TESTMODE} (in), 95 P20.3 (io), 100 P20.6 (io), 101 P20.7 (io), 102 P20.8 (io), 103 P20.9 (io), 104 P20.10 (io), 105 P20.11 (io), 106 P20.12 (io), 107 P20.13 (io), 108 P20.14 (io), 109 P15.0 (io), 110 P15.1 (io), 111 P15.2 (io), 112 P15.3 (io), 113 P15.4 (io), 114 P15.5 (io), 115 P15.6 (io), 116 P15.7 (io), 117 P15.8 (io), 118 P14.0 (io), 119 P14.1 (io), 120 P14.2 (io), 121 P14.3 (io), 122 P14.4 (io), 123 P14.5 (io), 124 P14.6 (io), 128 P13.0 (io), 129 P13.1 (io), 130 P13.2 (io), 131 P13.3 (io), 132 P11.2 (io), 133 P11.3 (io), 134 P11.6 (io), 135 P11.9 (io), 137 P11.10 (io), 138 P11.11 (io), 139 P11.12 (io), 140 P10.1 (io), 141 P10.2 (io), 142 P10.3 (io), 143 P10.5 (io), 144 P10.6 (io)
part B pins: 24 AN49 (in), 25 AN48 (in), 26 AN47 (in), 27 AN46 (in), 28 AN45 (in), 29 AN44 (in), 34 AN35 (in), 37 AN21 (in), 38 AN20 (in), 39 AN17 (in), 40 AN16 (in), 45 AN13 (in), 46 AN12 (in), 47 AN11 (in), 48 AN10 (in), 49 AN8 (in), 50 AN7 (in), 51 AN6 (in), 52 AN5 (in), 53 AN4 (in), 54 AN3 (in), 55 AN2 (in), 56 AN1 (in), 57 AN0 (in), 71 VGATE1P (out), 81 XTAL1, 82 XTAL2, 89 TMS (io), 91 ~{TRST} (in), 92 TCK (in), 96 ~{ESR1} (io), 97 ~{PORST} (in), 98 ~{ESR0} (io)
part C pins: 10 VDD/VDDSB (power), 22 VDD (power), 23 VEXT (power), 41 VAGND1 (power), 42 VAREF1 (power), 43 VSSM (power), 44 VDDM (power), 58 VDD (power), 59 VEXT (power), 78 VEXT (power), 79 VDD (power), 80 VSS (power), 83 VDDP3 (power), 99 VDD (power), 125 VEXT (power), 126 VDDP3 (power), 127 VDDFL3 (power), 136 VFLEX (power), 145 EP

## SAL-TC265D-40F200W BB
designator U?
32-bit multi-core TriCore AURIX microcontroller with 240 KB SRAM, 2.5 MB Flash, 200 MHz Frequency, -40 to 150 degC, PG-LQFP-176; Manufacturer: Infineon; ADC Chan.: 50; CAN FD: Yes; Core 0 TC16E DSPR (KB): 72; Core 0 TC16E PSPR (KB): 16; Core 1&2 TC16P DSPR (KB): 120; Core 1&2 TC16P PSPR (KB): 32; EEPROM (KB): 96 @125k; Flash (MB): 2.5; Freq. (MHz): 200; Standby Ctrl: No; Total SRAM (KB): 240; Derivative: SAL-TC265D-40F200W BB; DatasheetVersion: Rev. 0.6; PackageReference: PG-LQFP-176-22; PackageDescription: 176-Pin Plastic (Green) Low Profile Quad Flat Package, 24 x 24 mm Body, 0.5 mm Pitch; Supplier 1: Mouser; Supplier Part Number 1: 726-TC265D40F200WBBK; ETH: Yes; Supplier Part Reference: TC265D40F200WBBKXUMA1; Mounting Technology: Surface Mount; PartNumber: SAL-TC265D-40F200W BB; ComponentLink1Description: Manufacturer URL; ComponentLink1URL: http://www.infineon.com/
footprint INF-PG-LQFP-176-22-7500X7500TP_V (QFP, 176-Leads, Body 24x24mm, Pitch 0.5mm, Thermal Pad 7.5x7.5mm)
part A pins: 1 P02.0 (io), 2 P02.1 (io), 3 P02.2 (io), 4 P02.3 (io), 5 P02.4 (io), 6 P02.5 (io), 7 P02.6 (io), 8 P02.7 (io), 9 P02.8 (io), 11 P00.0 (io), 12 P00.1 (io), 13 P00.2 (io), 14 P00.3 (io), 15 P00.4 (io), 16 P00.5 (io), 17 P00.6 (io), 18 P00.7 (io), 19 P00.8 (io), 20 P00.9 (io), 21 P00.10 (io), 22 P00.11 (io), 23 P00.12 (io), 32 P40.9 (in), 33 P40.8 (in), 34 P40.7 (in), 35 P40.6 (in), 41 P40.3 (in), 42 P40.2 (in), 43 P40.1 (in), 44 P40.0 (in), 70 P33.0 (io), 71 P33.1 (io), 72 P33.2 (io), 73 P33.3 (io), 74 P33.4 (io), 75 P33.5 (io), 76 P33.6 (io), 77 P33.7 (io), 78 P33.8 (io), 79 P33.9 (io), 80 P33.10 (io), 81 P33.11 (io), 82 P33.12 (io), 83 P33.13 (io), 84 P32.0/VGATE1N (io), 86 P32.2 (io), 87 P32.3 (io), 88 P32.4 (io), 89 P23.0 (io), 90 P23.1 (io), 91 P23.2 (io), 92 P23.3 (io), 93 P23.4 (io), 94 P23.5 (io), 95 P22.0 (io), 96 P22.1 (io), 97 P22.2 (io), 98 P22.3 (io), 105 P21.0 (io), 106 P21.1 (io), 107 P21.2 (io), 108 P21.3 (io), 109 P21.4 (io), 110 P21.5 (io), 111 P21.6/TDI (io), 113 P21.7/TDO (io), 116 P20.0 (io), 117 P20.1 (io), 118 P20.2/~{TESTMODE} (in), 119 P20.3 (io), 124 P20.6 (io), 125 P20.7 (io), 126 P20.8 (io), 127 P20.9 (io), 128 P20.10 (io), 129 P20.11 (io), 130 P20.12 (io), 131 P20.13 (io), 132 P20.14 (io), 133 P15.0 (io), 134 P15.1 (io), 135 P15.2 (io), 136 P15.3 (io), 137 P15.4 (io), 138 P15.5 (io), 139 P15.6 (io), 140 P15.7 (io), 141 P15.8 (io), 142 P14.0 (io), 143 P14.1 (io), 144 P14.2 (io), 145 P14.3 (io), 146 P14.4 (io), 147 P14.5 (io), 148 P14.6 (io), 149 P14.7 (io), 150 P14.8 (io), 151 P14.9 (io), 152 P14.10 (io), 156 P13.0 (io), 157 P13.1 (io), 158 P13.2 (io), 159 P13.3 (io), 160 P11.2 (io), 161 P11.3 (io), 162 P11.6 (io), 163 P11.9 (io), 165 P11.10 (io), 166 P11.11 (io), 167 P11.12 (io), 168 P10.0 (io), 169 P10.1 (io), 170 P10.2 (io), 171 P10.3 (io), 172 P10.4 (io), 173 P10.5 (io), 174 P10.6 (io), 175 P10.7 (io), 176 P10.8 (io)
part B pins: 26 AN49 (in), 27 AN48 (in), 28 AN47 (in), 29 AN46 (in), 30 AN45 (in), 31 AN44 (in), 36 AN35 (in), 37 AN33 (in), 38 AN32 (in), 39 AN29 (in), 40 AN28 (in), 45 AN21 (in), 46 AN20 (in), 47 AN19 (in), 48 AN18 (in), 49 AN17 (in), 50 AN16 (in), 55 AN13 (in), 56 AN12 (in), 57 AN11 (in), 58 AN10 (in), 59 AN8 (in), 60 AN7 (in), 61 AN6 (in), 62 AN5 (in), 63 AN4 (in), 64 AN3 (in), 65 AN2 (in), 66 AN1 (in), 67 AN0 (in), 85 VGATE1P (out), 102 XTAL1, 103 XTAL2, 112 TMS (io), 114 ~{TRST} (in), 115 TCK (in), 120 ~{ESR1} (io), 121 ~{PORST} (in), 122 ~{ESR0} (io)
part C pins: 10 VDD/VDDSB (power), 24 VDD (power), 25 VEXT (power), 51 VAGND1 (power), 52 VAREF1 (power), 53 VSSM (power), 54 VDDM (power), 68 VDD (power), 69 VEXT (power), 99 VEXT (power), 100 VDD (power), 101 VSS (power), 104 VDDP3 (power), 123 VDD (power), 153 VEXT (power), 154 VDDP3 (power), 155 VDDFL3 (power), 164 VFLEX (power), 177 EP

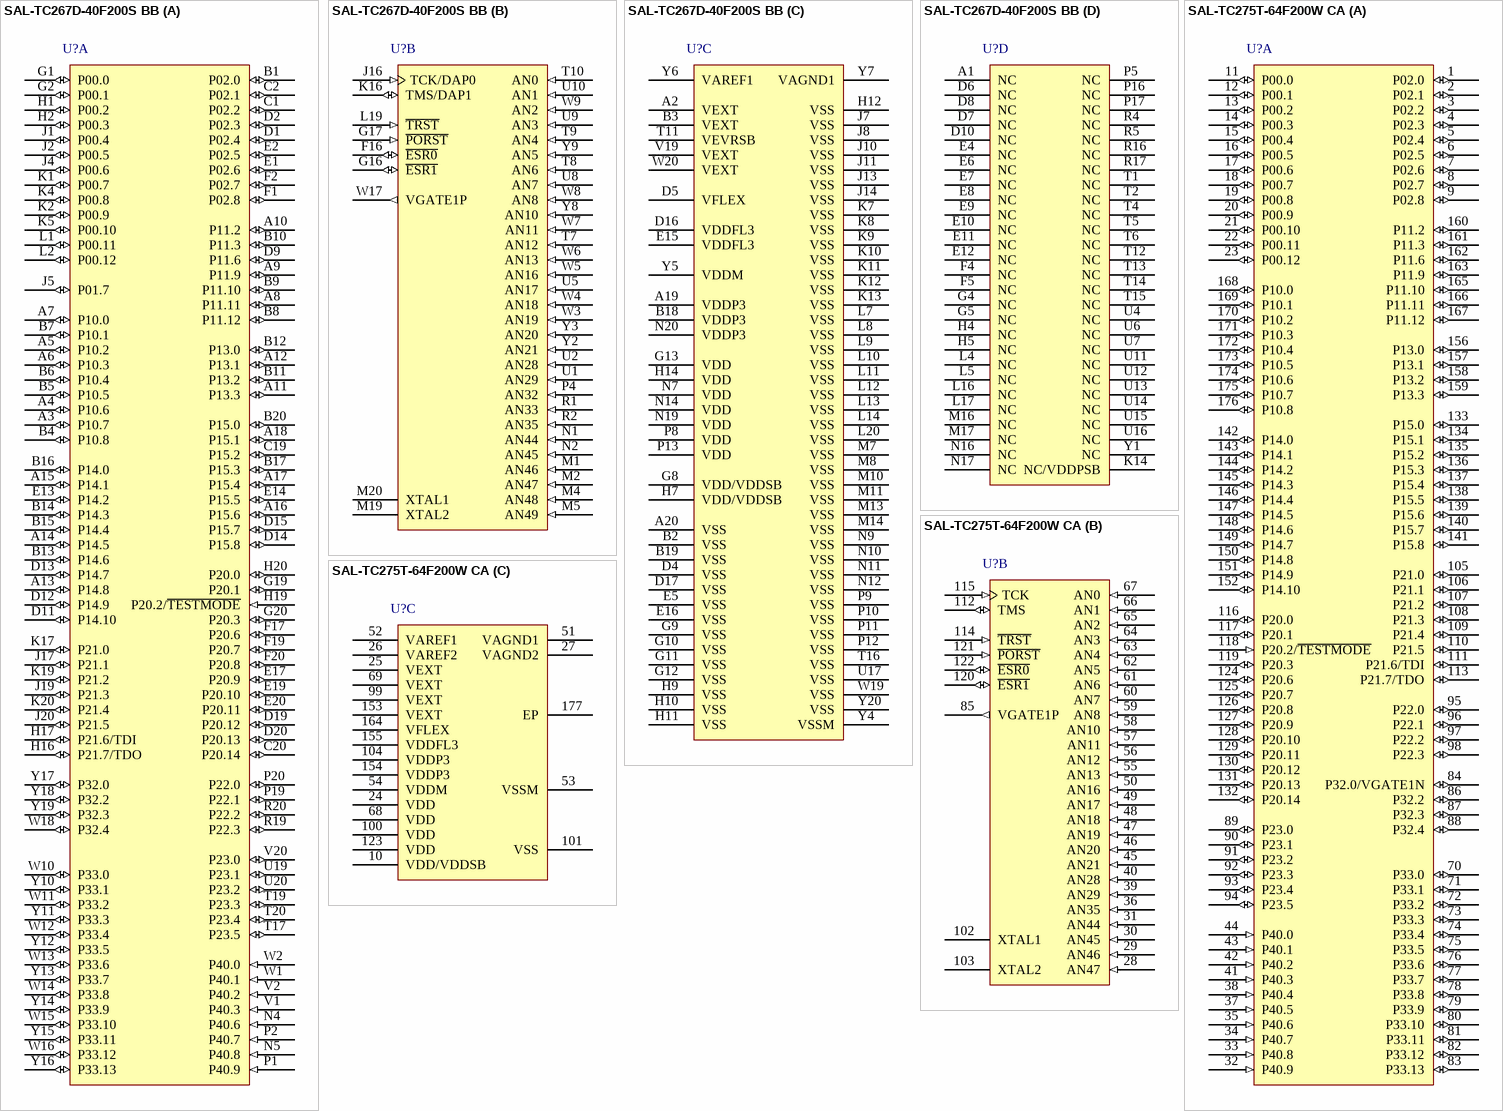
[diagram p31: symbols SAL-TC267D-40F200S BB to SAL-TC275T-64F200W CA]

## SAL-TC267D-40F200S BB
designator U?
32-bit multi-core TriCore AURIX microcontroller with 240 KB SRAM, 2.5 MB Flash, 200 MHz Frequency, -40 to 150 degC, PG-LFBGA-292; Manufacturer: Infineon; ADC Chan.: 50; CAN FD: Yes; Core 0 TC16E DSPR (KB): 72; Core 0 TC16E PSPR (KB): 16; Core 1&2 TC16P DSPR (KB): 120; Core 1&2 TC16P PSPR (KB): 32; EEPROM (KB): 96 @125k; Flash (MB): 2.5; Freq. (MHz): 200; Total SRAM (KB): 240; Derivative: SAL-TC267D-40F200S BB; DatasheetVersion: Rev. 0.6; PackageReference: PG-LFBGA-292-6; PackageDescription: 292-Pin Plastic (Green) Low Profile Fine Pitch Ball Grid Array Package, 17 x 17 mm Body, 0.8 mm Pitch; Supplier 1: Mouser; Supplier Part Number 1: 726-TC267D40F200SBBK; ETH: Yes; Standby Ctrl: Yes; Supplier Part Reference: TC267D40F200SBBKXUMA1; Mounting Technology: Surface Mount; PartNumber: SAL-TC267D-40F200S BB; ComponentLink1Description: Manufacturer URL; ComponentLink1URL: http://www.infineon.com/
footprint INF-PG-LFBGA-292-6 (BGA, 292-Balls, Body 17x17mm, Pitch 0.8mm)
part A pins: A3 P10.7 (io), A4 P10.6 (io), A5 P10.2 (io), A6 P10.3 (io), A7 P10.0 (io), A8 P11.11 (io), A9 P11.9 (io), A10 P11.2 (io), A11 P13.3 (io), A12 P13.1 (io), A13 P14.8 (io), A14 P14.5 (io), A15 P14.1 (io), A16 P15.6 (io), A17 P15.4 (io), A18 P15.1 (io), B1 P02.0 (io), B4 P10.8 (io), B5 P10.5 (io), B6 P10.4 (io), B7 P10.1 (io), B8 P11.12 (io), B9 P11.10 (io), B10 P11.3 (io), B11 P13.2 (io), B12 P13.0 (io), B13 P14.6 (io), B14 P14.3 (io), B15 P14.4 (io), B16 P14.0 (io), B17 P15.3 (io), B20 P15.0 (io), C1 P02.2 (io), C2 P02.1 (io), C19 P15.2 (io), C20 P20.14 (io), D1 P02.4 (io), D2 P02.3 (io), D9 P11.6 (io), D11 P14.10 (io), D12 P14.9 (io), D13 P14.7 (io), D14 P15.8 (io), D15 P15.7 (io), D19 P20.12 (io), D20 P20.13 (io), E1 P02.6 (io), E2 P02.5 (io), E13 P14.2 (io), E14 P15.5 (io), E17 P20.9 (io), E19 P20.10 (io), E20 P20.11 (io), F1 P02.8 (io), F2 P02.7 (io), F17 P20.6 (io), F19 P20.7 (io), F20 P20.8 (io), G1 P00.0 (io), G2 P00.1 (io), G19 P20.1 (io), G20 P20.3 (io), H1 P00.2 (io), H2 P00.3 (io), H16 P21.7/TDO (io), H17 P21.6/TDI (io), H19 P20.2/~{TESTMODE} (in), H20 P20.0 (io), J1 P00.4 (io), J2 P00.5 (io), J4 P00.6 (io), J5 P01.7 (io), J17 P21.1 (io), J19 P21.3 (io), J20 P21.5 (io), K1 P00.7 (io), K2 P00.9 (io), K4 P00.8 (io), K5 P00.10 (io), K17 P21.0 (io), K19 P21.2 (io), K20 P21.4 (io), L1 P00.11 (io), L2 P00.12 (io), N4 P40.6 (in), N5 P40.8 (in), P1 P40.9 (in), P2 P40.7 (in), P19 P22.1 (io), P20 P22.0 (io), R19 P22.3 (io), R20 P22.2 (io), T17 P23.5 (io), T19 P23.3 (io), T20 P23.4 (io), U19 P23.1 (io), U20 P23.2 (io), V1 P40.3 (in), V2 P40.2 (in), V20 P23.0 (io), W1 P40.1 (in), W2 P40.0 (in), W10 P33.0 (io), W11 P33.2 (io), W12 P33.4 (io), W13 P33.6 (io), W14 P33.8 (io), W15 P33.10 (io), W16 P33.12 (io), W18 P32.4 (io), Y10 P33.1 (io), Y11 P33.3 (io), Y12 P33.5 (io), Y13 P33.7 (io), Y14 P33.9 (io), Y15 P33.11 (io), Y16 P33.13 (io), Y17 P32.0 (io), Y18 P32.2 (io), Y19 P32.3 (io)
part B pins: F16 ~{ESR0} (io), G16 ~{ESR1} (io), G17 ~{PORST} (in), J16 TCK/DAP0 (in), K16 TMS/DAP1 (io), L19 ~{TRST} (in), M1 AN46 (in), M2 AN47 (in), M4 AN48 (in), M5 AN49 (in), M19 XTAL2, M20 XTAL1, N1 AN44 (in), N2 AN45 (in), P4 AN32 (in), R1 AN33 (in), R2 AN35 (in), T7 AN12 (in), T8 AN6 (in), T9 AN4 (in), T10 AN0 (in), U1 AN29 (in), U2 AN28 (in), U5 AN17 (in), U8 AN7 (in), U9 AN3 (in), U10 AN1 (in), W3 AN19 (in), W4 AN18 (in), W5 AN16 (in), W6 AN13 (in), W7 AN11 (in), W8 AN8 (in), W9 AN2 (in), W17 VGATE1P (out), Y2 AN21 (in), Y3 AN20 (in), Y8 AN10 (in), Y9 AN5 (in)
part C pins: A2 VEXT (power), A19 VDDP3 (power), A20 VSS (power), B2 VSS (power), B3 VEXT (power), B18 VDDP3 (power), B19 VSS (power), D4 VSS (power), D5 VFLEX (power), D16 VDDFL3 (power), D17 VSS (power), E5 VSS (power), E15 VDDFL3 (power), E16 VSS (power), G8 VDD/VDDSB (power), G9 VSS (power), G10 VSS (power), G11 VSS (power), G12 VSS (power), G13 VDD (power), H7 VDD/VDDSB (power), H9 VSS (power), H10 VSS (power), H11 VSS (power), H12 VSS (power), H14 VDD (power), J7 VSS (power), J8 VSS (power), J10 VSS (power), J11 VSS (power), J13 VSS (power), J14 VSS (power), K7 VSS (power), K8 VSS (power), K9 VSS (power), K10 VSS (power), K11 VSS (power), K12 VSS (power), K13 VSS (power), L7 VSS (power), L8 VSS (power), L9 VSS (power), L10 VSS (power), L11 VSS (power), L12 VSS (power), L13 VSS (power), L14 VSS (power), L20 VSS (power), M7 VSS (power), M8 VSS (power), M10 VSS (power), M11 VSS (power), M13 VSS (power), M14 VSS (power), N7 VDD (power), N9 VSS (power), N10 VSS (power), N11 VSS (power), N12 VSS (power), N14 VDD (power), N19 VDD (power), N20 VDDP3 (power), P8 VDD (power), P9 VSS (power), P10 VSS (power), P11 VSS (power), P12 VSS (power), P13 VDD (power), T11 VEVRSB (power), T16 VSS (power), U17 VSS (power), V19 VEXT (power), W19 VSS (power), W20 VEXT (power), Y4 VSSM (power), Y5 VDDM (power), Y6 VAREF1 (power), Y7 VAGND1 (power), Y20 VSS (power)
part D pins: A1 NC, D6 NC, D7 NC, D8 NC, D10 NC, E4 NC, E6 NC, E7 NC, E8 NC, E9 NC, E10 NC, E11 NC, E12 NC, F4 NC, F5 NC, G4 NC, G5 NC, H4 NC, H5 NC, K14 NC/VDDPSB, L4 NC, L5 NC, L16 NC, L17 NC, M16 NC, M17 NC, N16 NC, N17 NC, P5 NC, P16 NC, P17 NC, R4 NC, R5 NC, R16 NC, R17 NC, T1 NC, T2 NC, T4 NC, T5 NC, T6 NC, T12 NC, T13 NC, T14 NC, T15 NC, U4 NC, U6 NC, U7 NC, U11 NC, U12 NC, U13 NC, U14 NC, U15 NC, U16 NC, Y1 NC

## SAL-TC275T-64F200W CA
designator U?
32-bit multi-core TriCore AURIX microcontroller with 472 KB SRAM, 4 MB Flash, 200 MHz Frequency, -40 to 150 degC, PG-LQFP-176; Manufacturer: Infineon; ADC Chan.: 48; CAN FD: Yes; Core 0 TC16E DSPR (KB): 112; Core 0 TC16E PSPR (KB): 24; Core 1&2 TC16P DSPR (KB): 120; Core 1&2 TC16P PSPR (KB): 32; EEPROM (KB): 64 @ 500k; Flash (MB): 4; FlexRay (#/ch.): 1 / 2; Freq. (MHz): 200; HSM: No; Total SRAM (KB): 472; Derivative: SAL-TC275T-64F200W CA; DatasheetVersion: Rev. 0.71; PackageReference: PG-LQFP-176-22; PackageDescription: 176-Pin Plastic (Green) Low Profile Quad Flat Package, 24 x 24 mm Body, 0.5 mm Pitch; Supplier 1: Mouser; Supplier Part Number 1: 726-TC275T64F200WCAK; ETH: Yes; LMU (KB): 32; Supplier Part Reference: TC275T64F200WCAKXUMA1; Mounting Technology: Surface Mount; PartNumber: SAL-TC275T-64F200W CA; ComponentLink1Description: Manufacturer URL; ComponentLink1URL: http://www.infineon.com/
footprint INF-PG-LQFP-176-22-8700X8700TP_V (QFP, 176-Leads, Body 24x24mm, Pitch 0.5mm, Thermal Pad 8.7x8.7mm)
part A pins: 1 P02.0 (io), 2 P02.1 (io), 3 P02.2 (io), 4 P02.3 (io), 5 P02.4 (io), 6 P02.5 (io), 7 P02.6 (io), 8 P02.7 (io), 9 P02.8 (io), 11 P00.0 (io), 12 P00.1 (io), 13 P00.2 (io), 14 P00.3 (io), 15 P00.4 (io), 16 P00.5 (io), 17 P00.6 (io), 18 P00.7 (io), 19 P00.8 (io), 20 P00.9 (io), 21 P00.10 (io), 22 P00.11 (io), 23 P00.12 (io), 32 P40.9 (in), 33 P40.8 (in), 34 P40.7 (in), 35 P40.6 (in), 37 P40.5 (in), 38 P40.4 (in), 41 P40.3 (in), 42 P40.2 (in), 43 P40.1 (in), 44 P40.0 (in), 70 P33.0 (io), 71 P33.1 (io), 72 P33.2 (io), 73 P33.3 (io), 74 P33.4 (io), 75 P33.5 (io), 76 P33.6 (io), 77 P33.7 (io), 78 P33.8 (io), 79 P33.9 (io), 80 P33.10 (io), 81 P33.11 (io), 82 P33.12 (io), 83 P33.13 (io), 84 P32.0/VGATE1N (io), 86 P32.2 (io), 87 P32.3 (io), 88 P32.4 (io), 89 P23.0 (io), 90 P23.1 (io), 91 P23.2 (io), 92 P23.3 (io), 93 P23.4 (io), 94 P23.5 (io), 95 P22.0 (io), 96 P22.1 (io), 97 P22.2 (io), 98 P22.3 (io), 105 P21.0 (io), 106 P21.1 (io), 107 P21.2 (io), 108 P21.3 (io), 109 P21.4 (io), 110 P21.5 (io), 111 P21.6/TDI (io), 113 P21.7/TDO (io), 116 P20.0 (io), 117 P20.1 (io), 118 P20.2/~{TESTMODE} (in), 119 P20.3 (io), 124 P20.6 (io), 125 P20.7 (io), 126 P20.8 (io), 127 P20.9 (io), 128 P20.10 (io), 129 P20.11 (io), 130 P20.12 (io), 131 P20.13 (io), 132 P20.14 (io), 133 P15.0 (io), 134 P15.1 (io), 135 P15.2 (io), 136 P15.3 (io), 137 P15.4 (io), 138 P15.5 (io), 139 P15.6 (io), 140 P15.7 (io), 141 P15.8 (io), 142 P14.0 (io), 143 P14.1 (io), 144 P14.2 (io), 145 P14.3 (io), 146 P14.4 (io), 147 P14.5 (io), 148 P14.6 (io), 149 P14.7 (io), 150 P14.8 (io), 151 P14.9 (io), 152 P14.10 (io), 156 P13.0 (io), 157 P13.1 (io), 158 P13.2 (io), 159 P13.3 (io), 160 P11.2 (io), 161 P11.3 (io), 162 P11.6 (io), 163 P11.9 (io), 165 P11.10 (io), 166 P11.11 (io), 167 P11.12 (io), 168 P10.0 (io), 169 P10.1 (io), 170 P10.2 (io), 171 P10.3 (io), 172 P10.4 (io), 173 P10.5 (io), 174 P10.6 (io), 175 P10.7 (io), 176 P10.8 (io)
part B pins: 28 AN47 (in), 29 AN46 (in), 30 AN45 (in), 31 AN44 (in), 36 AN35 (in), 39 AN29 (in), 40 AN28 (in), 45 AN21 (in), 46 AN20 (in), 47 AN19 (in), 48 AN18 (in), 49 AN17 (in), 50 AN16 (in), 55 AN13 (in), 56 AN12 (in), 57 AN11 (in), 58 AN10 (in), 59 AN8 (in), 60 AN7 (in), 61 AN6 (in), 62 AN5 (in), 63 AN4 (in), 64 AN3 (in), 65 AN2 (in), 66 AN1 (in), 67 AN0 (in), 85 VGATE1P (out), 102 XTAL1, 103 XTAL2, 112 TMS (io), 114 ~{TRST} (in), 115 TCK (in), 120 ~{ESR1} (io), 121 ~{PORST} (in), 122 ~{ESR0} (io)
part C pins: 10 VDD/VDDSB (power), 24 VDD (power), 25 VEXT (power), 26 VAREF2 (power), 27 VAGND2 (power), 51 VAGND1 (power), 52 VAREF1 (power), 53 VSSM (power), 54 VDDM (power), 68 VDD (power), 69 VEXT (power), 99 VEXT (power), 100 VDD (power), 101 VSS (power), 104 VDDP3 (power), 123 VDD (power), 153 VEXT (power), 154 VDDP3 (power), 155 VDDFL3 (power), 164 VFLEX (power), 177 EP

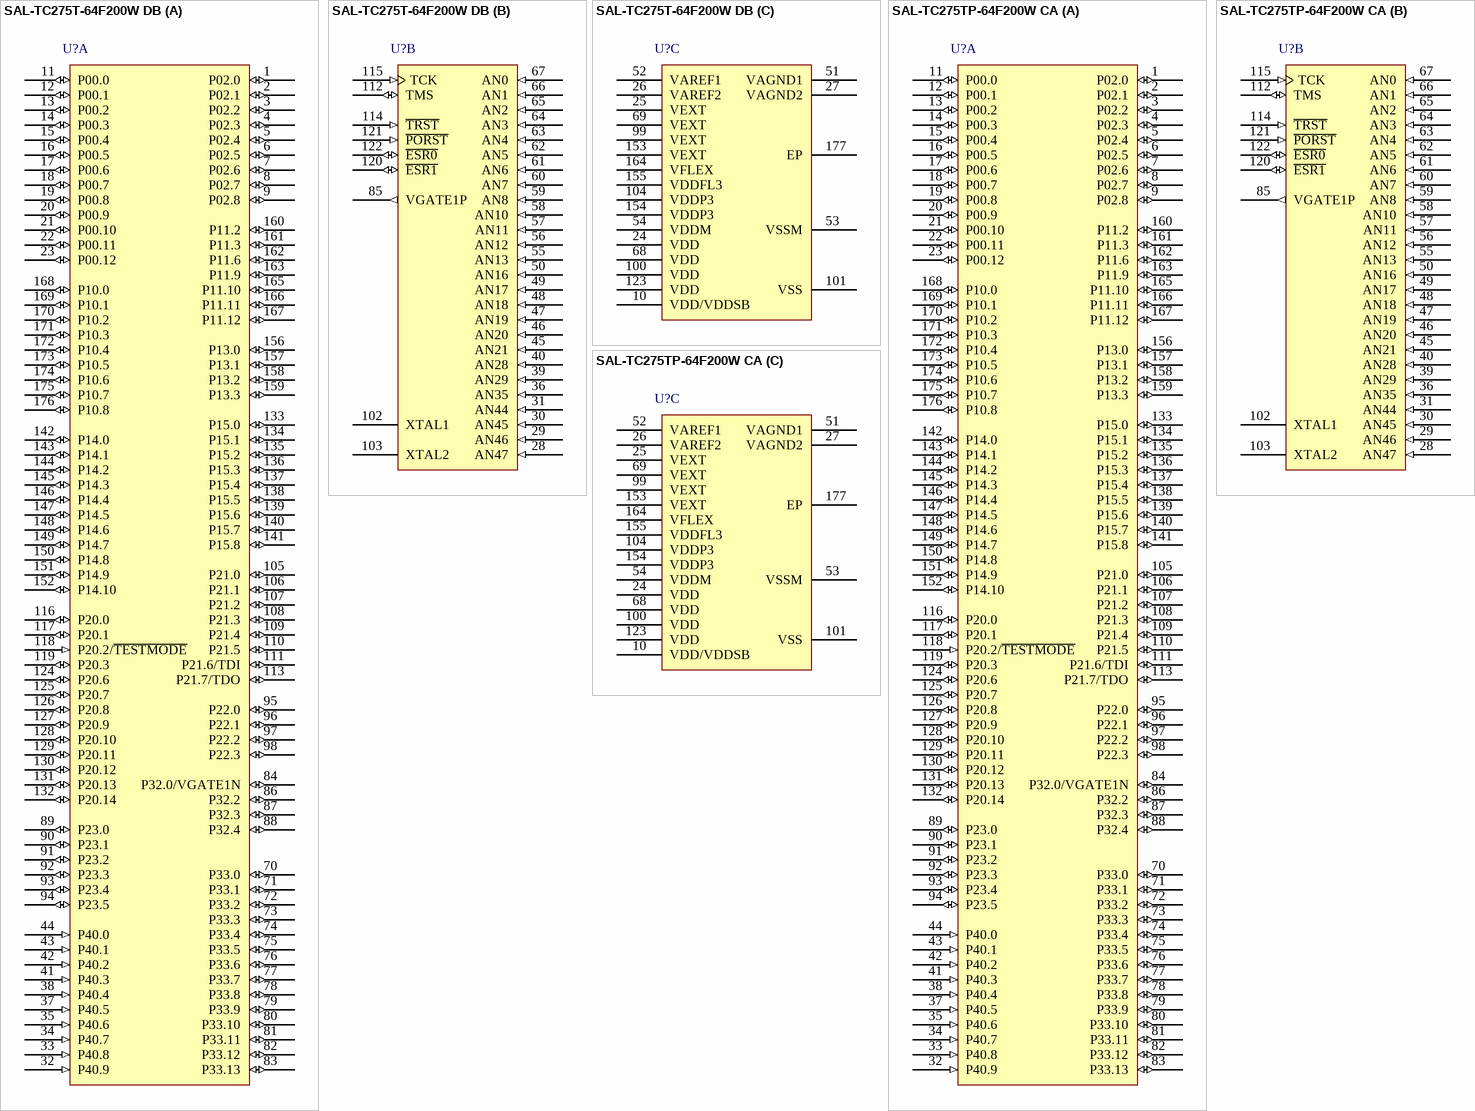
[diagram p32: symbols SAL-TC275T-64F200W DB to SAL-TC275TP-64F200W CA]

## SAL-TC275T-64F200W DB
designator U?
32-bit multi-core TriCore AURIX microcontroller with 472 KB SRAM, 4 MB Flash, 200 MHz Frequency, -40 to 150 degC, PG-LQFP-176; Manufacturer: Infineon; ADC Chan.: 48; CAN FD: Yes; Core 0 TC16E DSPR (KB): 112; Core 0 TC16E PSPR (KB): 24; Core 1&2 TC16P DSPR (KB): 120; Core 1&2 TC16P PSPR (KB): 32; EEPROM (KB): 64 @ 500k; Flash (MB): 4; FlexRay (#/ch.): 1 / 2; Freq. (MHz): 200; HSM: No; Total SRAM (KB): 472; Derivative: SAL-TC275T-64F200W DB; DatasheetVersion: Rev. 0.7; PackageReference: PG-LQFP-176-22; PackageDescription: 176-Pin Plastic (Green) Low Profile Quad Flat Package, 24 x 24 mm Body, 0.5 mm Pitch; ETH: Yes; LMU (KB): 32; Supplier Part Reference: TC275T64F200WDBKXUMA1; Mounting Technology: Surface Mount; PartNumber: SAL-TC275T-64F200W DB; ComponentLink1Description: Manufacturer URL; ComponentLink1URL: http://www.infineon.com/
footprint INF-PG-LQFP-176-22-8700X8700TP_V (QFP, 176-Leads, Body 24x24mm, Pitch 0.5mm, Thermal Pad 8.7x8.7mm)
part A pins: 1 P02.0 (io), 2 P02.1 (io), 3 P02.2 (io), 4 P02.3 (io), 5 P02.4 (io), 6 P02.5 (io), 7 P02.6 (io), 8 P02.7 (io), 9 P02.8 (io), 11 P00.0 (io), 12 P00.1 (io), 13 P00.2 (io), 14 P00.3 (io), 15 P00.4 (io), 16 P00.5 (io), 17 P00.6 (io), 18 P00.7 (io), 19 P00.8 (io), 20 P00.9 (io), 21 P00.10 (io), 22 P00.11 (io), 23 P00.12 (io), 32 P40.9 (in), 33 P40.8 (in), 34 P40.7 (in), 35 P40.6 (in), 37 P40.5 (in), 38 P40.4 (in), 41 P40.3 (in), 42 P40.2 (in), 43 P40.1 (in), 44 P40.0 (in), 70 P33.0 (io), 71 P33.1 (io), 72 P33.2 (io), 73 P33.3 (io), 74 P33.4 (io), 75 P33.5 (io), 76 P33.6 (io), 77 P33.7 (io), 78 P33.8 (io), 79 P33.9 (io), 80 P33.10 (io), 81 P33.11 (io), 82 P33.12 (io), 83 P33.13 (io), 84 P32.0/VGATE1N (io), 86 P32.2 (io), 87 P32.3 (io), 88 P32.4 (io), 89 P23.0 (io), 90 P23.1 (io), 91 P23.2 (io), 92 P23.3 (io), 93 P23.4 (io), 94 P23.5 (io), 95 P22.0 (io), 96 P22.1 (io), 97 P22.2 (io), 98 P22.3 (io), 105 P21.0 (io), 106 P21.1 (io), 107 P21.2 (io), 108 P21.3 (io), 109 P21.4 (io), 110 P21.5 (io), 111 P21.6/TDI (io), 113 P21.7/TDO (io), 116 P20.0 (io), 117 P20.1 (io), 118 P20.2/~{TESTMODE} (in), 119 P20.3 (io), 124 P20.6 (io), 125 P20.7 (io), 126 P20.8 (io), 127 P20.9 (io), 128 P20.10 (io), 129 P20.11 (io), 130 P20.12 (io), 131 P20.13 (io), 132 P20.14 (io), 133 P15.0 (io), 134 P15.1 (io), 135 P15.2 (io), 136 P15.3 (io), 137 P15.4 (io), 138 P15.5 (io), 139 P15.6 (io), 140 P15.7 (io), 141 P15.8 (io), 142 P14.0 (io), 143 P14.1 (io), 144 P14.2 (io), 145 P14.3 (io), 146 P14.4 (io), 147 P14.5 (io), 148 P14.6 (io), 149 P14.7 (io), 150 P14.8 (io), 151 P14.9 (io), 152 P14.10 (io), 156 P13.0 (io), 157 P13.1 (io), 158 P13.2 (io), 159 P13.3 (io), 160 P11.2 (io), 161 P11.3 (io), 162 P11.6 (io), 163 P11.9 (io), 165 P11.10 (io), 166 P11.11 (io), 167 P11.12 (io), 168 P10.0 (io), 169 P10.1 (io), 170 P10.2 (io), 171 P10.3 (io), 172 P10.4 (io), 173 P10.5 (io), 174 P10.6 (io), 175 P10.7 (io), 176 P10.8 (io)
part B pins: 28 AN47 (in), 29 AN46 (in), 30 AN45 (in), 31 AN44 (in), 36 AN35 (in), 39 AN29 (in), 40 AN28 (in), 45 AN21 (in), 46 AN20 (in), 47 AN19 (in), 48 AN18 (in), 49 AN17 (in), 50 AN16 (in), 55 AN13 (in), 56 AN12 (in), 57 AN11 (in), 58 AN10 (in), 59 AN8 (in), 60 AN7 (in), 61 AN6 (in), 62 AN5 (in), 63 AN4 (in), 64 AN3 (in), 65 AN2 (in), 66 AN1 (in), 67 AN0 (in), 85 VGATE1P (out), 102 XTAL1, 103 XTAL2, 112 TMS (io), 114 ~{TRST} (in), 115 TCK (in), 120 ~{ESR1} (io), 121 ~{PORST} (in), 122 ~{ESR0} (io)
part C pins: 10 VDD/VDDSB (power), 24 VDD (power), 25 VEXT (power), 26 VAREF2 (power), 27 VAGND2 (power), 51 VAGND1 (power), 52 VAREF1 (power), 53 VSSM (power), 54 VDDM (power), 68 VDD (power), 69 VEXT (power), 99 VEXT (power), 100 VDD (power), 101 VSS (power), 104 VDDP3 (power), 123 VDD (power), 153 VEXT (power), 154 VDDP3 (power), 155 VDDFL3 (power), 164 VFLEX (power), 177 EP